# Altium integrated library Renesas Microcontroller R8C.IntLib: 628 symbols (part 14 of 33)
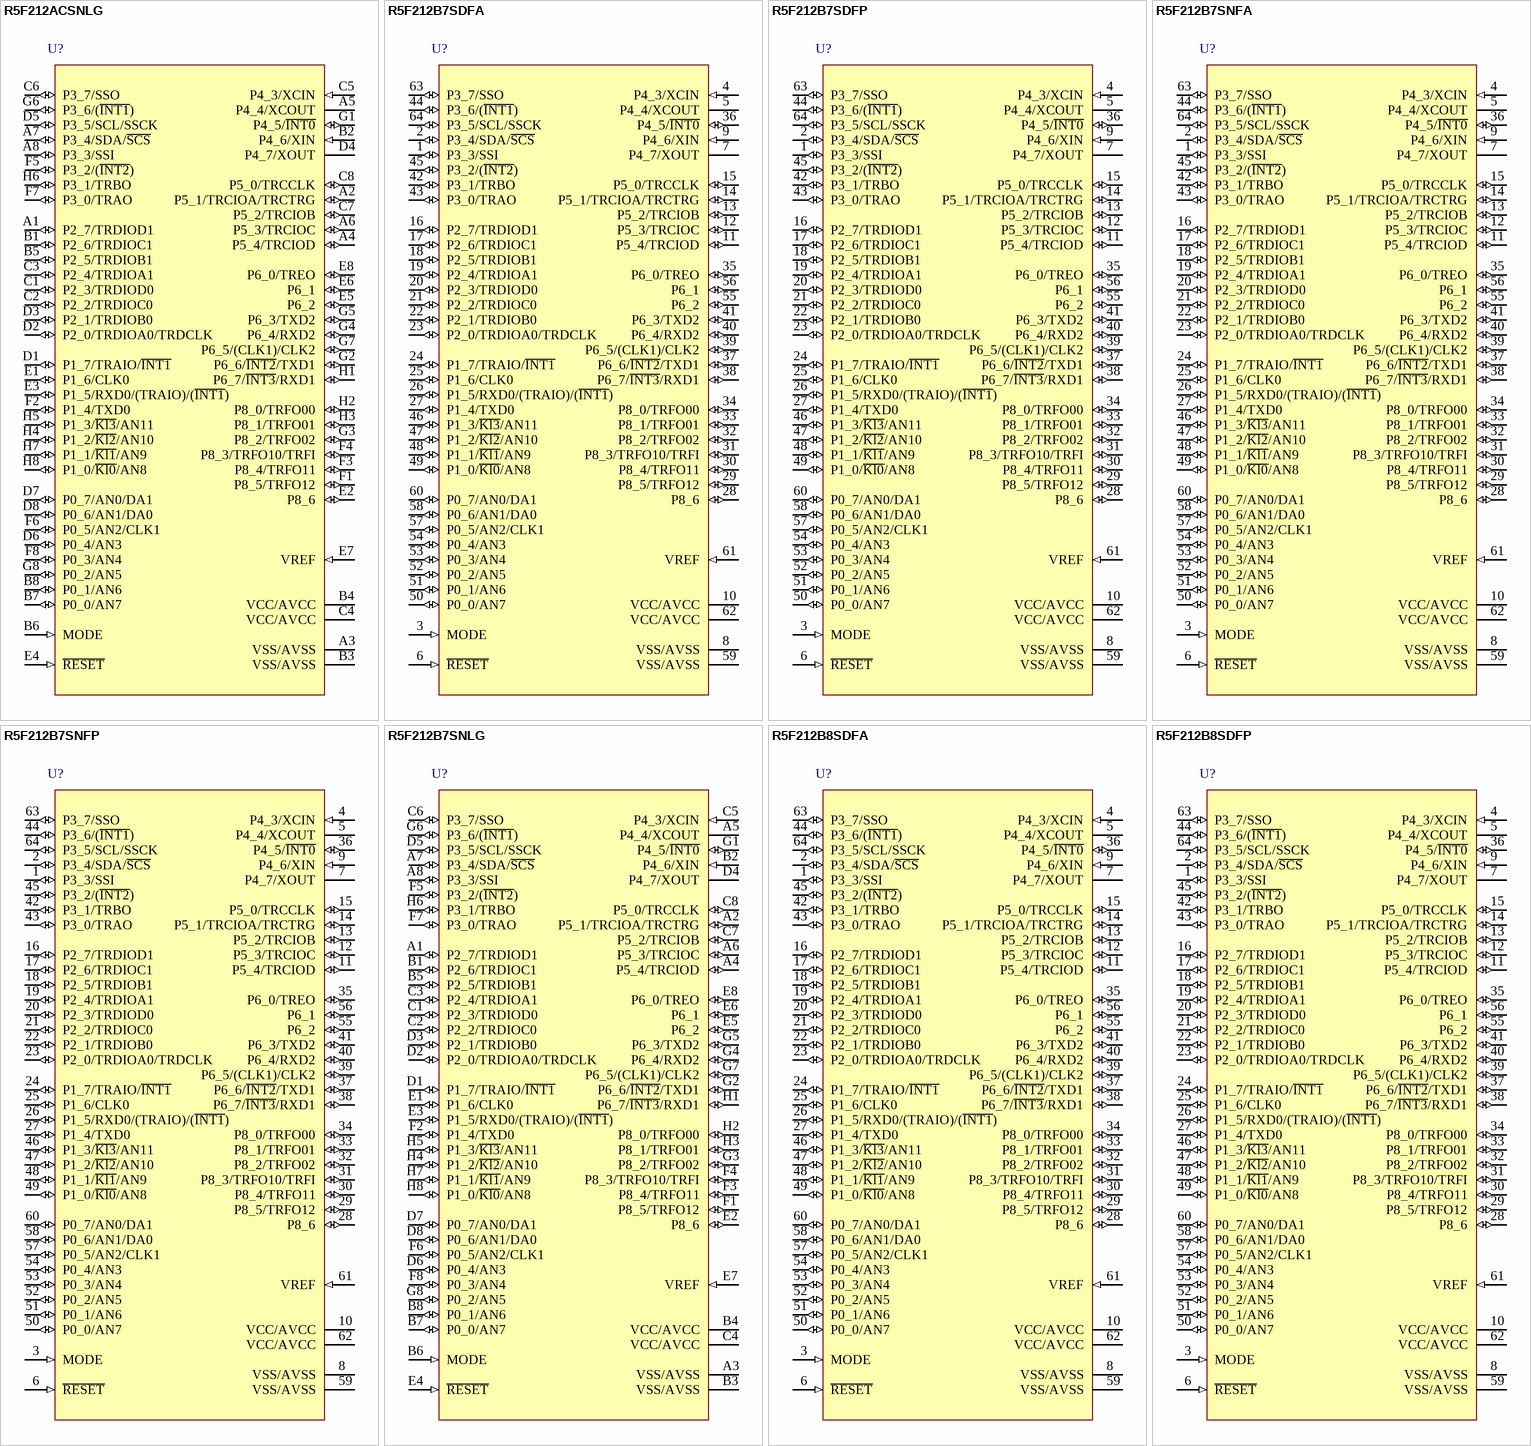
[diagram p129: symbols R5F212ACSNLG to R5F212B8SDFP]

## R5F212B7SNFP
designator U?
R8C/2B Group Single Chip 16-Bit CMOS MCU, 48K ROM + 1K x2 Data Flash, 2.5K RAM, N Version; Published: 30-Oct-2009; DatasheetVersion: Rev.2.10, Nov-2007; PackageVersion: Sep-2005; PackageReference: PLQP0064KB-A; Publisher: Altium Limited; PackageDescription: 64-Pin Plastic Low Profile QFP, 10 x 10 x 1.4 mm Body, 0.5 mm Pitch; Code_JEITA: P-LQFP64-10x10-0.50; Code_IPC: SQFP50P1200X1200-64; ComponentLink1Description: Manufacturer Link; ComponentLink1URL: http://sg.renesas.com/fmwk.jsp?cnt=r8c_family_landing.jsp&fp=/products/mpumcu/r8c_family/; ComponentLink2Description: Datasheet; ComponentLink2URL: http://documentation.renesas.com/eng/products/mpumcu/rej03b0182_r8c2a2bds.pdf; ComponentLink3Description: Packaging Specification; ComponentLink3URL: http://sg.renesas.com/media/products/common_info/package/pdf/ic/code/plqp0064kb_a.pdf
footprint PLQP0064KB-A_N (Shrink QFP, 64-Leads, Body 10x10mm, Pitch 0.5mm, IPC Medium Density)
footprint PLQP0064KB-A_L (Shrink QFP, 64-Leads, Body 10x10mm, Pitch 0.5mm, IPC High Density)
footprint PLQP0064KB-A_M (Shrink QFP, 64-Leads, Body 10x10mm, Pitch 0.5mm, IPC Low Density)
pins: 1 P3_3/SSI (io), 2 P3_4/SDA/~{SCS} (io), 3 MODE (in), 4 P4_3/XCIN (in), 5 P4_4/XCOUT, 6 ~{RESET} (in), 7 P4_7/XOUT, 8 VSS/AVSS (power), 9 P4_6/XIN (in), 10 VCC/AVCC (power), 11 P5_4/TRCIOD (io), 12 P5_3/TRCIOC (io), 13 P5_2/TRCIOB (io), 14 P5_1/TRCIOA/TRCTRG (io), 15 P5_0/TRCCLK (io), 16 P2_7/TRDIOD1 (io), 17 P2_6/TRDIOC1 (io), 18 P2_5/TRDIOB1 (io), 19 P2_4/TRDIOA1 (io), 20 P2_3/TRDIOD0 (io), 21 P2_2/TRDIOC0 (io), 22 P2_1/TRDIOB0 (io), 23 P2_0/TRDIOA0/TRDCLK (io), 24 P1_7/TRAIO/~{INT1} (io), 25 P1_6/CLK0 (io), 26 P1_5/RXD0/(TRAIO)/(~{INT1}) (io), 27 P1_4/TXD0 (io), 28 P8_6 (io), 29 P8_5/TRFO12 (io), 30 P8_4/TRFO11 (io), 31 P8_3/TRFO10/TRFI (io), 32 P8_2/TRFO02 (io), 33 P8_1/TRFO01 (io), 34 P8_0/TRFO00 (io), 35 P6_0/TREO (io), 36 P4_5/~{INT0} (io), 37 P6_6/~{INT2}/TXD1 (io), 38 P6_7/~{INT3}/RXD1 (io), 39 P6_5/(CLK1)/CLK2 (io), 40 P6_4/RXD2 (io), 41 P6_3/TXD2 (io), 42 P3_1/TRBO (io), 43 P3_0/TRAO (io), 44 P3_6/(~{INT1}) (io), 45 P3_2/(~{INT2}) (io), 46 P1_3/~{Kl3}/AN11 (io), 47 P1_2/~{Kl2}/AN10 (io), 48 P1_1/~{Kl1}/AN9 (io), 49 P1_0/~{Kl0}/AN8 (io), 50 P0_0/AN7 (io), 51 P0_1/AN6 (io), 52 P0_2/AN5 (io), 53 P0_3/AN4 (io), 54 P0_4/AN3 (io), 55 P6_2 (io), 56 P6_1 (io), 57 P0_5/AN2/CLK1 (io), 58 P0_6/AN1/DA0 (io), 59 VSS/AVSS (power), 60 P0_7/AN0/DA1 (io), 61 VREF (in), 62 VCC/AVCC (power), 63 P3_7/SSO (io), 64 P3_5/SCL/SSCK (io)

## R5F212B7SNLG
designator U?
R8C/2B Group Single Chip 16-Bit CMOS MCU, 48K ROM + 1K x2 Data Flash, 2.5K RAM, N Version; Published: 30-Oct-2009; DatasheetVersion: Rev.2.10, Nov-2007; PackageVersion: Sep-2005; PackageReference: PTLG0064JA-A; Publisher: Altium Limited; PackageDescription: 64-Ball Plastic Thin Fine-Pitch BGA, 6 x 6 mm Body, 0.65 mm Pitch; Code_JEITA: P-TFLGA64-6x6-0.65; ComponentLink1Description: Manufacturer Link; ComponentLink1URL: http://sg.renesas.com/fmwk.jsp?cnt=r8c_family_landing.jsp&fp=/products/mpumcu/r8c_family/; ComponentLink2Description: Datasheet; ComponentLink2URL: http://documentation.renesas.com/eng/products/mpumcu/rej03b0182_r8c2a2bds.pdf; ComponentLink3Description: Packaging Specification; ComponentLink3URL: http://sg.renesas.com/media/products/common_info/package/pdf/ic/code/ptlg0064ja_a.pdf
footprint PTLG0064JA-A (BGA, 64-Leads, Body 6x6mm, Pitch 0.65mm)
pins: A1 P2_7/TRDIOD1 (io), A2 P5_1/TRCIOA/TRCTRG (io), A3 VSS/AVSS (power), A4 P5_4/TRCIOD (io), A5 P4_4/XCOUT, A6 P5_3/TRCIOC (io), A7 P3_4/SDA/~{SCS} (io), A8 P3_3/SSI (io), B1 P2_6/TRDIOC1 (io), B2 P4_6/XIN (in), B3 VSS/AVSS (power), B4 VCC/AVCC (power), B5 P2_5/TRDIOB1 (io), B6 MODE (in), B7 P0_0/AN7 (io), B8 P0_1/AN6 (io), C1 P2_3/TRDIOD0 (io), C2 P2_2/TRDIOC0 (io), C3 P2_4/TRDIOA1 (io), C4 VCC/AVCC (power), C5 P4_3/XCIN (in), C6 P3_7/SSO (io), C7 P5_2/TRCIOB (io), C8 P5_0/TRCCLK (io), D1 P1_7/TRAIO/~{INT1} (io), D2 P2_0/TRDIOA0/TRDCLK (io), D3 P2_1/TRDIOB0 (io), D4 P4_7/XOUT, D5 P3_5/SCL/SSCK (io), D6 P0_4/AN3 (io), D7 P0_7/AN0/DA1 (io), D8 P0_6/AN1/DA0 (io), E1 P1_6/CLK0 (io), E2 P8_6 (io), E3 P1_5/RXD0/(TRAIO)/(~{INT1}) (io), E4 ~{RESET} (in), E5 P6_2 (io), E6 P6_1 (io), E7 VREF (in), E8 P6_0/TREO (io), F1 P8_5/TRFO12 (io), F2 P1_4/TXD0 (io), F3 P8_4/TRFO11 (io), F4 P8_3/TRFO10/TRFI (io), F5 P3_2/(~{INT2}) (io), F6 P0_5/AN2/CLK1 (io), F7 P3_0/TRAO (io), F8 P0_3/AN4 (io), G1 P4_5/~{INT0} (io), G2 P6_6/~{INT2}/TXD1 (io), G3 P8_2/TRFO02 (io), G4 P6_4/RXD2 (io), G5 P6_3/TXD2 (io), G6 P3_6/(~{INT1}) (io), G7 P6_5/(CLK1)/CLK2 (io), G8 P0_2/AN5 (io), H1 P6_7/~{INT3}/RXD1 (io), H2 P8_0/TRFO00 (io), H3 P8_1/TRFO01 (io), H4 P1_2/~{Kl2}/AN10 (io), H5 P1_3/~{Kl3}/AN11 (io), H6 P3_1/TRBO (io), H7 P1_1/~{Kl1}/AN9 (io), H8 P1_0/~{Kl0}/AN8 (io)

## R5F212B8SDFA
designator U?
R8C/2B Group Single Chip 16-Bit CMOS MCU, 64K ROM + 1K x2 Data Flash, 3K RAM, D Version; Published: 30-Oct-2009; DatasheetVersion: Rev.2.10, Nov-2007; PackageVersion: Oct-2005; PackageReference: PLQP0064GA-A; Publisher: Altium Limited; PackageDescription: 64-Pin Plastic Low Profile QFP, 14 x 14 x 1.4 mm Body, 0.8 mm Pitch; Code_JEITA: P-LQFP64-14x14-0.80; ComponentLink1Description: Manufacturer Link; ComponentLink1URL: http://sg.renesas.com/fmwk.jsp?cnt=r8c_family_landing.jsp&fp=/products/mpumcu/r8c_family/; ComponentLink2Description: Datasheet; ComponentLink2URL: http://documentation.renesas.com/eng/products/mpumcu/rej03b0182_r8c2a2bds.pdf; ComponentLink3Description: Packaging Specification; ComponentLink3URL: http://sg.renesas.com/media/products/common_info/package/pdf/ic/code/plqp0064ga_a.pdf
footprint PLQP0064GA-A_N (QFP, 64-Leads, Body 14x14mm, Pitch 0.8mm, IPC Medium Density)
footprint PLQP0064GA-A_L (QFP, 64-Leads, Body 14x14mm, Pitch 0.8mm, IPC High Density)
footprint PLQP0064GA-A_M (QFP, 64-Leads, Body 14x14mm, Pitch 0.8mm, IPC Low Density)
pins: 1 P3_3/SSI (io), 2 P3_4/SDA/~{SCS} (io), 3 MODE (in), 4 P4_3/XCIN (in), 5 P4_4/XCOUT, 6 ~{RESET} (in), 7 P4_7/XOUT, 8 VSS/AVSS (power), 9 P4_6/XIN (in), 10 VCC/AVCC (power), 11 P5_4/TRCIOD (io), 12 P5_3/TRCIOC (io), 13 P5_2/TRCIOB (io), 14 P5_1/TRCIOA/TRCTRG (io), 15 P5_0/TRCCLK (io), 16 P2_7/TRDIOD1 (io), 17 P2_6/TRDIOC1 (io), 18 P2_5/TRDIOB1 (io), 19 P2_4/TRDIOA1 (io), 20 P2_3/TRDIOD0 (io), 21 P2_2/TRDIOC0 (io), 22 P2_1/TRDIOB0 (io), 23 P2_0/TRDIOA0/TRDCLK (io), 24 P1_7/TRAIO/~{INT1} (io), 25 P1_6/CLK0 (io), 26 P1_5/RXD0/(TRAIO)/(~{INT1}) (io), 27 P1_4/TXD0 (io), 28 P8_6 (io), 29 P8_5/TRFO12 (io), 30 P8_4/TRFO11 (io), 31 P8_3/TRFO10/TRFI (io), 32 P8_2/TRFO02 (io), 33 P8_1/TRFO01 (io), 34 P8_0/TRFO00 (io), 35 P6_0/TREO (io), 36 P4_5/~{INT0} (io), 37 P6_6/~{INT2}/TXD1 (io), 38 P6_7/~{INT3}/RXD1 (io), 39 P6_5/(CLK1)/CLK2 (io), 40 P6_4/RXD2 (io), 41 P6_3/TXD2 (io), 42 P3_1/TRBO (io), 43 P3_0/TRAO (io), 44 P3_6/(~{INT1}) (io), 45 P3_2/(~{INT2}) (io), 46 P1_3/~{Kl3}/AN11 (io), 47 P1_2/~{Kl2}/AN10 (io), 48 P1_1/~{Kl1}/AN9 (io), 49 P1_0/~{Kl0}/AN8 (io), 50 P0_0/AN7 (io), 51 P0_1/AN6 (io), 52 P0_2/AN5 (io), 53 P0_3/AN4 (io), 54 P0_4/AN3 (io), 55 P6_2 (io), 56 P6_1 (io), 57 P0_5/AN2/CLK1 (io), 58 P0_6/AN1/DA0 (io), 59 VSS/AVSS (power), 60 P0_7/AN0/DA1 (io), 61 VREF (in), 62 VCC/AVCC (power), 63 P3_7/SSO (io), 64 P3_5/SCL/SSCK (io)

## R5F212B8SDFP
designator U?
R8C/2B Group Single Chip 16-Bit CMOS MCU, 64K ROM + 1K x2 Data Flash, 3K RAM, D Version; Published: 30-Oct-2009; DatasheetVersion: Rev.2.10, Nov-2007; PackageVersion: Sep-2005; PackageReference: PLQP0064KB-A; Publisher: Altium Limited; PackageDescription: 64-Pin Plastic Low Profile QFP, 10 x 10 x 1.4 mm Body, 0.5 mm Pitch; Code_JEITA: P-LQFP64-10x10-0.50; Code_IPC: SQFP50P1200X1200-64; ComponentLink1Description: Manufacturer Link; ComponentLink1URL: http://sg.renesas.com/fmwk.jsp?cnt=r8c_family_landing.jsp&fp=/products/mpumcu/r8c_family/; ComponentLink2Description: Datasheet; ComponentLink2URL: http://documentation.renesas.com/eng/products/mpumcu/rej03b0182_r8c2a2bds.pdf; ComponentLink3Description: Packaging Specification; ComponentLink3URL: http://sg.renesas.com/media/products/common_info/package/pdf/ic/code/plqp0064kb_a.pdf
footprint PLQP0064KB-A_N (Shrink QFP, 64-Leads, Body 10x10mm, Pitch 0.5mm, IPC Medium Density)
footprint PLQP0064KB-A_L (Shrink QFP, 64-Leads, Body 10x10mm, Pitch 0.5mm, IPC High Density)
footprint PLQP0064KB-A_M (Shrink QFP, 64-Leads, Body 10x10mm, Pitch 0.5mm, IPC Low Density)
pins: 1 P3_3/SSI (io), 2 P3_4/SDA/~{SCS} (io), 3 MODE (in), 4 P4_3/XCIN (in), 5 P4_4/XCOUT, 6 ~{RESET} (in), 7 P4_7/XOUT, 8 VSS/AVSS (power), 9 P4_6/XIN (in), 10 VCC/AVCC (power), 11 P5_4/TRCIOD (io), 12 P5_3/TRCIOC (io), 13 P5_2/TRCIOB (io), 14 P5_1/TRCIOA/TRCTRG (io), 15 P5_0/TRCCLK (io), 16 P2_7/TRDIOD1 (io), 17 P2_6/TRDIOC1 (io), 18 P2_5/TRDIOB1 (io), 19 P2_4/TRDIOA1 (io), 20 P2_3/TRDIOD0 (io), 21 P2_2/TRDIOC0 (io), 22 P2_1/TRDIOB0 (io), 23 P2_0/TRDIOA0/TRDCLK (io), 24 P1_7/TRAIO/~{INT1} (io), 25 P1_6/CLK0 (io), 26 P1_5/RXD0/(TRAIO)/(~{INT1}) (io), 27 P1_4/TXD0 (io), 28 P8_6 (io), 29 P8_5/TRFO12 (io), 30 P8_4/TRFO11 (io), 31 P8_3/TRFO10/TRFI (io), 32 P8_2/TRFO02 (io), 33 P8_1/TRFO01 (io), 34 P8_0/TRFO00 (io), 35 P6_0/TREO (io), 36 P4_5/~{INT0} (io), 37 P6_6/~{INT2}/TXD1 (io), 38 P6_7/~{INT3}/RXD1 (io), 39 P6_5/(CLK1)/CLK2 (io), 40 P6_4/RXD2 (io), 41 P6_3/TXD2 (io), 42 P3_1/TRBO (io), 43 P3_0/TRAO (io), 44 P3_6/(~{INT1}) (io), 45 P3_2/(~{INT2}) (io), 46 P1_3/~{Kl3}/AN11 (io), 47 P1_2/~{Kl2}/AN10 (io), 48 P1_1/~{Kl1}/AN9 (io), 49 P1_0/~{Kl0}/AN8 (io), 50 P0_0/AN7 (io), 51 P0_1/AN6 (io), 52 P0_2/AN5 (io), 53 P0_3/AN4 (io), 54 P0_4/AN3 (io), 55 P6_2 (io), 56 P6_1 (io), 57 P0_5/AN2/CLK1 (io), 58 P0_6/AN1/DA0 (io), 59 VSS/AVSS (power), 60 P0_7/AN0/DA1 (io), 61 VREF (in), 62 VCC/AVCC (power), 63 P3_7/SSO (io), 64 P3_5/SCL/SSCK (io)

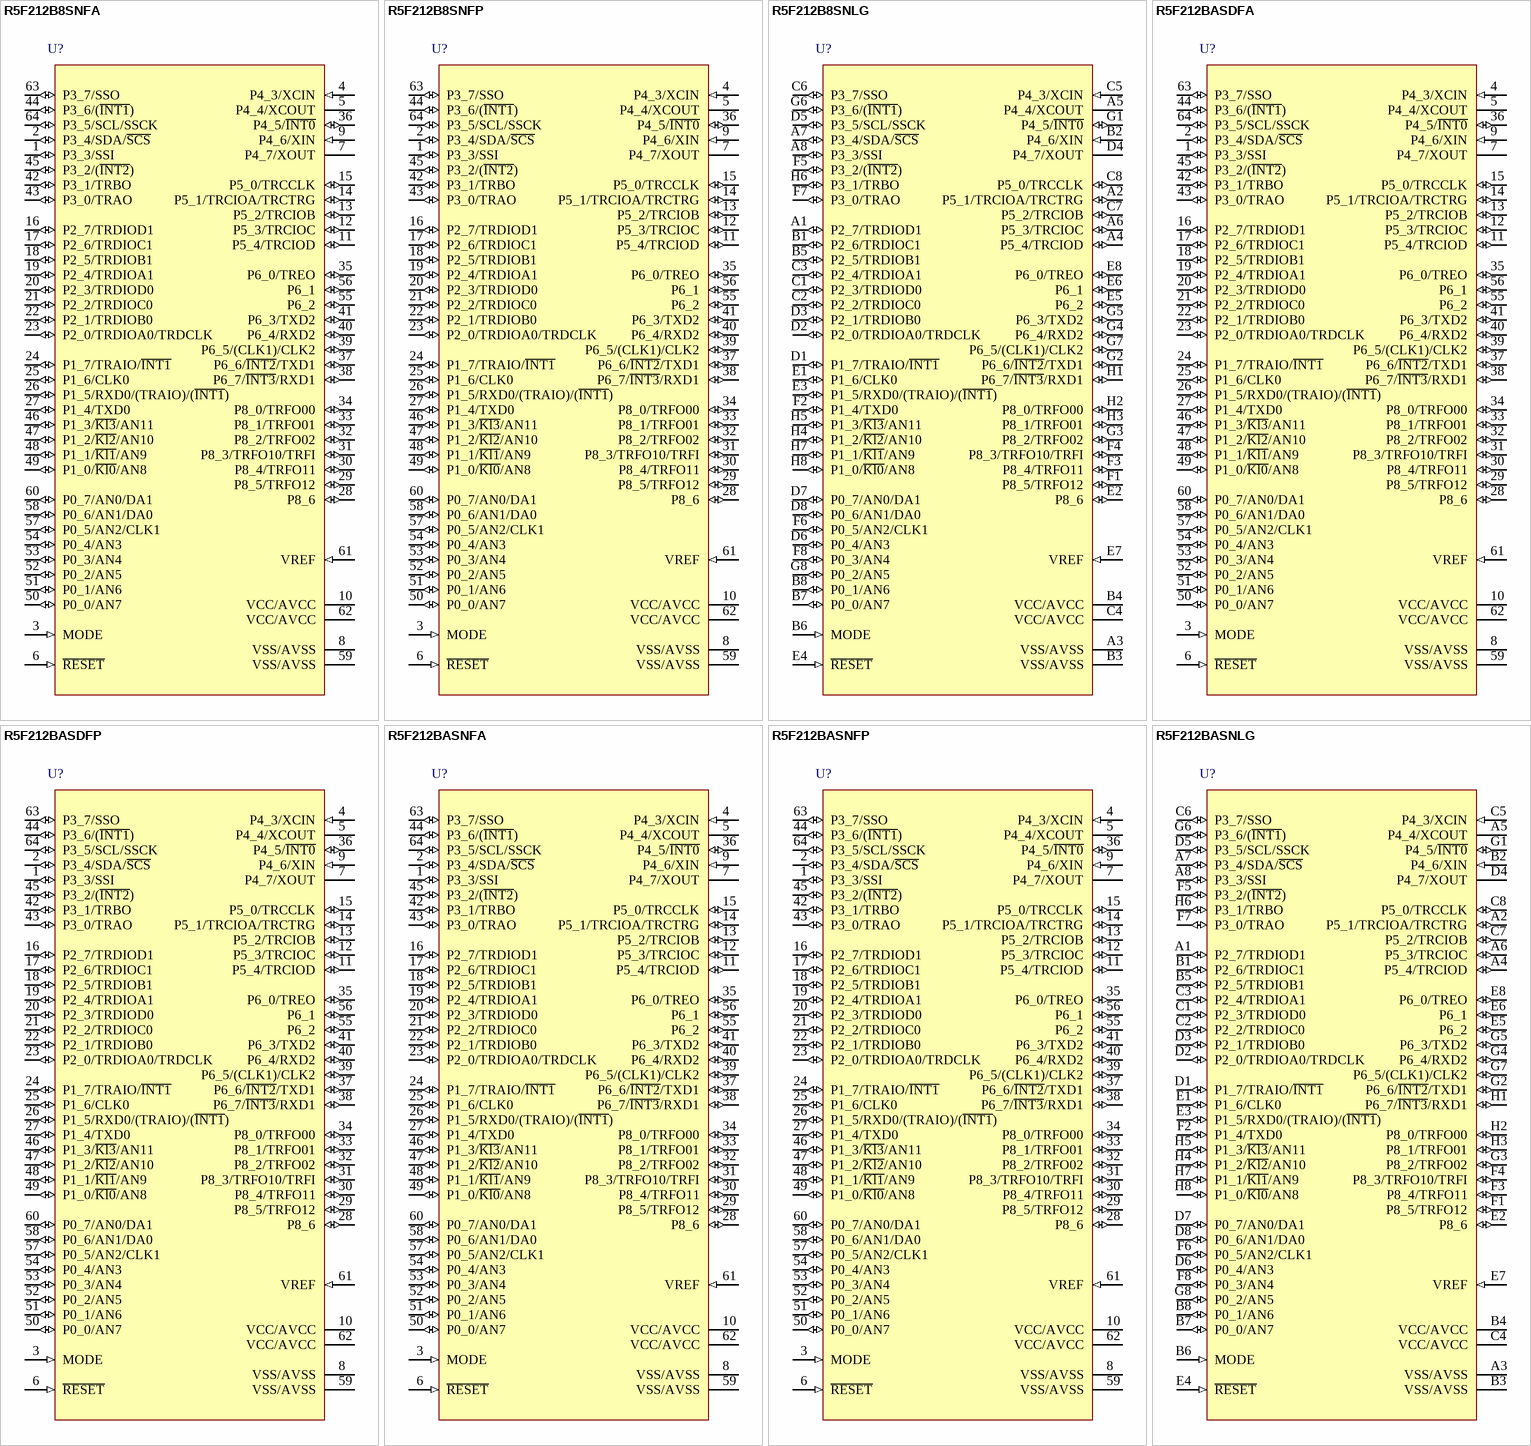
[diagram p48: symbols R5F212B8SNFA to R5F212BASNLG]

## R5F212B8SNFA
designator U?
R8C/2B Group Single Chip 16-Bit CMOS MCU, 64K ROM + 1K x2 Data Flash, 3K RAM, N Version; Published: 30-Oct-2009; DatasheetVersion: Rev.2.10, Nov-2007; PackageVersion: Oct-2005; PackageReference: PLQP0064GA-A; Publisher: Altium Limited; PackageDescription: 64-Pin Plastic Low Profile QFP, 14 x 14 x 1.4 mm Body, 0.8 mm Pitch; Code_JEITA: P-LQFP64-14x14-0.80; ComponentLink1Description: Manufacturer Link; ComponentLink1URL: http://sg.renesas.com/fmwk.jsp?cnt=r8c_family_landing.jsp&fp=/products/mpumcu/r8c_family/; ComponentLink2Description: Datasheet; ComponentLink2URL: http://documentation.renesas.com/eng/products/mpumcu/rej03b0182_r8c2a2bds.pdf; ComponentLink3Description: Packaging Specification; ComponentLink3URL: http://sg.renesas.com/media/products/common_info/package/pdf/ic/code/plqp0064ga_a.pdf
footprint PLQP0064GA-A_N (QFP, 64-Leads, Body 14x14mm, Pitch 0.8mm, IPC Medium Density)
footprint PLQP0064GA-A_L (QFP, 64-Leads, Body 14x14mm, Pitch 0.8mm, IPC High Density)
footprint PLQP0064GA-A_M (QFP, 64-Leads, Body 14x14mm, Pitch 0.8mm, IPC Low Density)
pins: 1 P3_3/SSI (io), 2 P3_4/SDA/~{SCS} (io), 3 MODE (in), 4 P4_3/XCIN (in), 5 P4_4/XCOUT, 6 ~{RESET} (in), 7 P4_7/XOUT, 8 VSS/AVSS (power), 9 P4_6/XIN (in), 10 VCC/AVCC (power), 11 P5_4/TRCIOD (io), 12 P5_3/TRCIOC (io), 13 P5_2/TRCIOB (io), 14 P5_1/TRCIOA/TRCTRG (io), 15 P5_0/TRCCLK (io), 16 P2_7/TRDIOD1 (io), 17 P2_6/TRDIOC1 (io), 18 P2_5/TRDIOB1 (io), 19 P2_4/TRDIOA1 (io), 20 P2_3/TRDIOD0 (io), 21 P2_2/TRDIOC0 (io), 22 P2_1/TRDIOB0 (io), 23 P2_0/TRDIOA0/TRDCLK (io), 24 P1_7/TRAIO/~{INT1} (io), 25 P1_6/CLK0 (io), 26 P1_5/RXD0/(TRAIO)/(~{INT1}) (io), 27 P1_4/TXD0 (io), 28 P8_6 (io), 29 P8_5/TRFO12 (io), 30 P8_4/TRFO11 (io), 31 P8_3/TRFO10/TRFI (io), 32 P8_2/TRFO02 (io), 33 P8_1/TRFO01 (io), 34 P8_0/TRFO00 (io), 35 P6_0/TREO (io), 36 P4_5/~{INT0} (io), 37 P6_6/~{INT2}/TXD1 (io), 38 P6_7/~{INT3}/RXD1 (io), 39 P6_5/(CLK1)/CLK2 (io), 40 P6_4/RXD2 (io), 41 P6_3/TXD2 (io), 42 P3_1/TRBO (io), 43 P3_0/TRAO (io), 44 P3_6/(~{INT1}) (io), 45 P3_2/(~{INT2}) (io), 46 P1_3/~{Kl3}/AN11 (io), 47 P1_2/~{Kl2}/AN10 (io), 48 P1_1/~{Kl1}/AN9 (io), 49 P1_0/~{Kl0}/AN8 (io), 50 P0_0/AN7 (io), 51 P0_1/AN6 (io), 52 P0_2/AN5 (io), 53 P0_3/AN4 (io), 54 P0_4/AN3 (io), 55 P6_2 (io), 56 P6_1 (io), 57 P0_5/AN2/CLK1 (io), 58 P0_6/AN1/DA0 (io), 59 VSS/AVSS (power), 60 P0_7/AN0/DA1 (io), 61 VREF (in), 62 VCC/AVCC (power), 63 P3_7/SSO (io), 64 P3_5/SCL/SSCK (io)

## R5F212B8SNFP
designator U?
R8C/2B Group Single Chip 16-Bit CMOS MCU, 64K ROM + 1K x2 Data Flash, 3K RAM, N Version; Published: 30-Oct-2009; DatasheetVersion: Rev.2.10, Nov-2007; PackageVersion: Sep-2005; PackageReference: PLQP0064KB-A; Publisher: Altium Limited; PackageDescription: 64-Pin Plastic Low Profile QFP, 10 x 10 x 1.4 mm Body, 0.5 mm Pitch; Code_JEITA: P-LQFP64-10x10-0.50; Code_IPC: SQFP50P1200X1200-64; ComponentLink1Description: Manufacturer Link; ComponentLink1URL: http://sg.renesas.com/fmwk.jsp?cnt=r8c_family_landing.jsp&fp=/products/mpumcu/r8c_family/; ComponentLink2Description: Datasheet; ComponentLink2URL: http://documentation.renesas.com/eng/products/mpumcu/rej03b0182_r8c2a2bds.pdf; ComponentLink3Description: Packaging Specification; ComponentLink3URL: http://sg.renesas.com/media/products/common_info/package/pdf/ic/code/plqp0064kb_a.pdf
footprint PLQP0064KB-A_N (Shrink QFP, 64-Leads, Body 10x10mm, Pitch 0.5mm, IPC Medium Density)
footprint PLQP0064KB-A_L (Shrink QFP, 64-Leads, Body 10x10mm, Pitch 0.5mm, IPC High Density)
footprint PLQP0064KB-A_M (Shrink QFP, 64-Leads, Body 10x10mm, Pitch 0.5mm, IPC Low Density)
pins: 1 P3_3/SSI (io), 2 P3_4/SDA/~{SCS} (io), 3 MODE (in), 4 P4_3/XCIN (in), 5 P4_4/XCOUT, 6 ~{RESET} (in), 7 P4_7/XOUT, 8 VSS/AVSS (power), 9 P4_6/XIN (in), 10 VCC/AVCC (power), 11 P5_4/TRCIOD (io), 12 P5_3/TRCIOC (io), 13 P5_2/TRCIOB (io), 14 P5_1/TRCIOA/TRCTRG (io), 15 P5_0/TRCCLK (io), 16 P2_7/TRDIOD1 (io), 17 P2_6/TRDIOC1 (io), 18 P2_5/TRDIOB1 (io), 19 P2_4/TRDIOA1 (io), 20 P2_3/TRDIOD0 (io), 21 P2_2/TRDIOC0 (io), 22 P2_1/TRDIOB0 (io), 23 P2_0/TRDIOA0/TRDCLK (io), 24 P1_7/TRAIO/~{INT1} (io), 25 P1_6/CLK0 (io), 26 P1_5/RXD0/(TRAIO)/(~{INT1}) (io), 27 P1_4/TXD0 (io), 28 P8_6 (io), 29 P8_5/TRFO12 (io), 30 P8_4/TRFO11 (io), 31 P8_3/TRFO10/TRFI (io), 32 P8_2/TRFO02 (io), 33 P8_1/TRFO01 (io), 34 P8_0/TRFO00 (io), 35 P6_0/TREO (io), 36 P4_5/~{INT0} (io), 37 P6_6/~{INT2}/TXD1 (io), 38 P6_7/~{INT3}/RXD1 (io), 39 P6_5/(CLK1)/CLK2 (io), 40 P6_4/RXD2 (io), 41 P6_3/TXD2 (io), 42 P3_1/TRBO (io), 43 P3_0/TRAO (io), 44 P3_6/(~{INT1}) (io), 45 P3_2/(~{INT2}) (io), 46 P1_3/~{Kl3}/AN11 (io), 47 P1_2/~{Kl2}/AN10 (io), 48 P1_1/~{Kl1}/AN9 (io), 49 P1_0/~{Kl0}/AN8 (io), 50 P0_0/AN7 (io), 51 P0_1/AN6 (io), 52 P0_2/AN5 (io), 53 P0_3/AN4 (io), 54 P0_4/AN3 (io), 55 P6_2 (io), 56 P6_1 (io), 57 P0_5/AN2/CLK1 (io), 58 P0_6/AN1/DA0 (io), 59 VSS/AVSS (power), 60 P0_7/AN0/DA1 (io), 61 VREF (in), 62 VCC/AVCC (power), 63 P3_7/SSO (io), 64 P3_5/SCL/SSCK (io)

## R5F212B8SNLG
designator U?
R8C/2B Group Single Chip 16-Bit CMOS MCU, 64K ROM + 1K x2 Data Flash, 3K RAM, N Version; Published: 30-Oct-2009; DatasheetVersion: Rev.2.10, Nov-2007; PackageVersion: Sep-2005; PackageReference: PTLG0064JA-A; Publisher: Altium Limited; PackageDescription: 64-Ball Plastic Thin Fine-Pitch BGA, 6 x 6 mm Body, 0.65 mm Pitch; Code_JEITA: P-TFLGA64-6x6-0.65; ComponentLink1Description: Manufacturer Link; ComponentLink1URL: http://sg.renesas.com/fmwk.jsp?cnt=r8c_family_landing.jsp&fp=/products/mpumcu/r8c_family/; ComponentLink2Description: Datasheet; ComponentLink2URL: http://documentation.renesas.com/eng/products/mpumcu/rej03b0182_r8c2a2bds.pdf; ComponentLink3Description: Packaging Specification; ComponentLink3URL: http://sg.renesas.com/media/products/common_info/package/pdf/ic/code/ptlg0064ja_a.pdf
footprint PTLG0064JA-A (BGA, 64-Leads, Body 6x6mm, Pitch 0.65mm)
pins: A1 P2_7/TRDIOD1 (io), A2 P5_1/TRCIOA/TRCTRG (io), A3 VSS/AVSS (power), A4 P5_4/TRCIOD (io), A5 P4_4/XCOUT, A6 P5_3/TRCIOC (io), A7 P3_4/SDA/~{SCS} (io), A8 P3_3/SSI (io), B1 P2_6/TRDIOC1 (io), B2 P4_6/XIN (in), B3 VSS/AVSS (power), B4 VCC/AVCC (power), B5 P2_5/TRDIOB1 (io), B6 MODE (in), B7 P0_0/AN7 (io), B8 P0_1/AN6 (io), C1 P2_3/TRDIOD0 (io), C2 P2_2/TRDIOC0 (io), C3 P2_4/TRDIOA1 (io), C4 VCC/AVCC (power), C5 P4_3/XCIN (in), C6 P3_7/SSO (io), C7 P5_2/TRCIOB (io), C8 P5_0/TRCCLK (io), D1 P1_7/TRAIO/~{INT1} (io), D2 P2_0/TRDIOA0/TRDCLK (io), D3 P2_1/TRDIOB0 (io), D4 P4_7/XOUT, D5 P3_5/SCL/SSCK (io), D6 P0_4/AN3 (io), D7 P0_7/AN0/DA1 (io), D8 P0_6/AN1/DA0 (io), E1 P1_6/CLK0 (io), E2 P8_6 (io), E3 P1_5/RXD0/(TRAIO)/(~{INT1}) (io), E4 ~{RESET} (in), E5 P6_2 (io), E6 P6_1 (io), E7 VREF (in), E8 P6_0/TREO (io), F1 P8_5/TRFO12 (io), F2 P1_4/TXD0 (io), F3 P8_4/TRFO11 (io), F4 P8_3/TRFO10/TRFI (io), F5 P3_2/(~{INT2}) (io), F6 P0_5/AN2/CLK1 (io), F7 P3_0/TRAO (io), F8 P0_3/AN4 (io), G1 P4_5/~{INT0} (io), G2 P6_6/~{INT2}/TXD1 (io), G3 P8_2/TRFO02 (io), G4 P6_4/RXD2 (io), G5 P6_3/TXD2 (io), G6 P3_6/(~{INT1}) (io), G7 P6_5/(CLK1)/CLK2 (io), G8 P0_2/AN5 (io), H1 P6_7/~{INT3}/RXD1 (io), H2 P8_0/TRFO00 (io), H3 P8_1/TRFO01 (io), H4 P1_2/~{Kl2}/AN10 (io), H5 P1_3/~{Kl3}/AN11 (io), H6 P3_1/TRBO (io), H7 P1_1/~{Kl1}/AN9 (io), H8 P1_0/~{Kl0}/AN8 (io)

## R5F212BASDFA
designator U?
R8C/2B Group Single Chip 16-Bit CMOS MCU, 96K ROM + 1K x2 Data Flash, 7K RAM, D Version; Published: 30-Oct-2009; DatasheetVersion: Rev.2.10, Nov-2007; PackageVersion: Oct-2005; PackageReference: PLQP0064GA-A; Publisher: Altium Limited; PackageDescription: 64-Pin Plastic Low Profile QFP, 14 x 14 x 1.4 mm Body, 0.8 mm Pitch; Code_JEITA: P-LQFP64-14x14-0.80; ComponentLink1Description: Manufacturer Link; ComponentLink1URL: http://sg.renesas.com/fmwk.jsp?cnt=r8c_family_landing.jsp&fp=/products/mpumcu/r8c_family/; ComponentLink2Description: Datasheet; ComponentLink2URL: http://documentation.renesas.com/eng/products/mpumcu/rej03b0182_r8c2a2bds.pdf; ComponentLink3Description: Packaging Specification; ComponentLink3URL: http://sg.renesas.com/media/products/common_info/package/pdf/ic/code/plqp0064ga_a.pdf
footprint PLQP0064GA-A_N (QFP, 64-Leads, Body 14x14mm, Pitch 0.8mm, IPC Medium Density)
footprint PLQP0064GA-A_L (QFP, 64-Leads, Body 14x14mm, Pitch 0.8mm, IPC High Density)
footprint PLQP0064GA-A_M (QFP, 64-Leads, Body 14x14mm, Pitch 0.8mm, IPC Low Density)
pins: 1 P3_3/SSI (io), 2 P3_4/SDA/~{SCS} (io), 3 MODE (in), 4 P4_3/XCIN (in), 5 P4_4/XCOUT, 6 ~{RESET} (in), 7 P4_7/XOUT, 8 VSS/AVSS (power), 9 P4_6/XIN (in), 10 VCC/AVCC (power), 11 P5_4/TRCIOD (io), 12 P5_3/TRCIOC (io), 13 P5_2/TRCIOB (io), 14 P5_1/TRCIOA/TRCTRG (io), 15 P5_0/TRCCLK (io), 16 P2_7/TRDIOD1 (io), 17 P2_6/TRDIOC1 (io), 18 P2_5/TRDIOB1 (io), 19 P2_4/TRDIOA1 (io), 20 P2_3/TRDIOD0 (io), 21 P2_2/TRDIOC0 (io), 22 P2_1/TRDIOB0 (io), 23 P2_0/TRDIOA0/TRDCLK (io), 24 P1_7/TRAIO/~{INT1} (io), 25 P1_6/CLK0 (io), 26 P1_5/RXD0/(TRAIO)/(~{INT1}) (io), 27 P1_4/TXD0 (io), 28 P8_6 (io), 29 P8_5/TRFO12 (io), 30 P8_4/TRFO11 (io), 31 P8_3/TRFO10/TRFI (io), 32 P8_2/TRFO02 (io), 33 P8_1/TRFO01 (io), 34 P8_0/TRFO00 (io), 35 P6_0/TREO (io), 36 P4_5/~{INT0} (io), 37 P6_6/~{INT2}/TXD1 (io), 38 P6_7/~{INT3}/RXD1 (io), 39 P6_5/(CLK1)/CLK2 (io), 40 P6_4/RXD2 (io), 41 P6_3/TXD2 (io), 42 P3_1/TRBO (io), 43 P3_0/TRAO (io), 44 P3_6/(~{INT1}) (io), 45 P3_2/(~{INT2}) (io), 46 P1_3/~{Kl3}/AN11 (io), 47 P1_2/~{Kl2}/AN10 (io), 48 P1_1/~{Kl1}/AN9 (io), 49 P1_0/~{Kl0}/AN8 (io), 50 P0_0/AN7 (io), 51 P0_1/AN6 (io), 52 P0_2/AN5 (io), 53 P0_3/AN4 (io), 54 P0_4/AN3 (io), 55 P6_2 (io), 56 P6_1 (io), 57 P0_5/AN2/CLK1 (io), 58 P0_6/AN1/DA0 (io), 59 VSS/AVSS (power), 60 P0_7/AN0/DA1 (io), 61 VREF (in), 62 VCC/AVCC (power), 63 P3_7/SSO (io), 64 P3_5/SCL/SSCK (io)

## R5F212BASDFP
designator U?
R8C/2B Group Single Chip 16-Bit CMOS MCU, 96K ROM + 1K x2 Data Flash, 7K RAM, D Version; Published: 30-Oct-2009; DatasheetVersion: Rev.2.10, Nov-2007; PackageVersion: Sep-2005; PackageReference: PLQP0064KB-A; Publisher: Altium Limited; PackageDescription: 64-Pin Plastic Low Profile QFP, 10 x 10 x 1.4 mm Body, 0.5 mm Pitch; Code_JEITA: P-LQFP64-10x10-0.50; Code_IPC: SQFP50P1200X1200-64; ComponentLink1Description: Manufacturer Link; ComponentLink1URL: http://sg.renesas.com/fmwk.jsp?cnt=r8c_family_landing.jsp&fp=/products/mpumcu/r8c_family/; ComponentLink2Description: Datasheet; ComponentLink2URL: http://documentation.renesas.com/eng/products/mpumcu/rej03b0182_r8c2a2bds.pdf; ComponentLink3Description: Packaging Specification; ComponentLink3URL: http://sg.renesas.com/media/products/common_info/package/pdf/ic/code/plqp0064kb_a.pdf
footprint PLQP0064KB-A_N (Shrink QFP, 64-Leads, Body 10x10mm, Pitch 0.5mm, IPC Medium Density)
footprint PLQP0064KB-A_L (Shrink QFP, 64-Leads, Body 10x10mm, Pitch 0.5mm, IPC High Density)
footprint PLQP0064KB-A_M (Shrink QFP, 64-Leads, Body 10x10mm, Pitch 0.5mm, IPC Low Density)
pins: 1 P3_3/SSI (io), 2 P3_4/SDA/~{SCS} (io), 3 MODE (in), 4 P4_3/XCIN (in), 5 P4_4/XCOUT, 6 ~{RESET} (in), 7 P4_7/XOUT, 8 VSS/AVSS (power), 9 P4_6/XIN (in), 10 VCC/AVCC (power), 11 P5_4/TRCIOD (io), 12 P5_3/TRCIOC (io), 13 P5_2/TRCIOB (io), 14 P5_1/TRCIOA/TRCTRG (io), 15 P5_0/TRCCLK (io), 16 P2_7/TRDIOD1 (io), 17 P2_6/TRDIOC1 (io), 18 P2_5/TRDIOB1 (io), 19 P2_4/TRDIOA1 (io), 20 P2_3/TRDIOD0 (io), 21 P2_2/TRDIOC0 (io), 22 P2_1/TRDIOB0 (io), 23 P2_0/TRDIOA0/TRDCLK (io), 24 P1_7/TRAIO/~{INT1} (io), 25 P1_6/CLK0 (io), 26 P1_5/RXD0/(TRAIO)/(~{INT1}) (io), 27 P1_4/TXD0 (io), 28 P8_6 (io), 29 P8_5/TRFO12 (io), 30 P8_4/TRFO11 (io), 31 P8_3/TRFO10/TRFI (io), 32 P8_2/TRFO02 (io), 33 P8_1/TRFO01 (io), 34 P8_0/TRFO00 (io), 35 P6_0/TREO (io), 36 P4_5/~{INT0} (io), 37 P6_6/~{INT2}/TXD1 (io), 38 P6_7/~{INT3}/RXD1 (io), 39 P6_5/(CLK1)/CLK2 (io), 40 P6_4/RXD2 (io), 41 P6_3/TXD2 (io), 42 P3_1/TRBO (io), 43 P3_0/TRAO (io), 44 P3_6/(~{INT1}) (io), 45 P3_2/(~{INT2}) (io), 46 P1_3/~{Kl3}/AN11 (io), 47 P1_2/~{Kl2}/AN10 (io), 48 P1_1/~{Kl1}/AN9 (io), 49 P1_0/~{Kl0}/AN8 (io), 50 P0_0/AN7 (io), 51 P0_1/AN6 (io), 52 P0_2/AN5 (io), 53 P0_3/AN4 (io), 54 P0_4/AN3 (io), 55 P6_2 (io), 56 P6_1 (io), 57 P0_5/AN2/CLK1 (io), 58 P0_6/AN1/DA0 (io), 59 VSS/AVSS (power), 60 P0_7/AN0/DA1 (io), 61 VREF (in), 62 VCC/AVCC (power), 63 P3_7/SSO (io), 64 P3_5/SCL/SSCK (io)

## R5F212BASNFA
designator U?
R8C/2B Group Single Chip 16-Bit CMOS MCU, 96K ROM + 1K x2 Data Flash, 7K RAM, N Version; Published: 30-Oct-2009; DatasheetVersion: Rev.2.10, Nov-2007; PackageVersion: Oct-2005; PackageReference: PLQP0064GA-A; Publisher: Altium Limited; PackageDescription: 64-Pin Plastic Low Profile QFP, 14 x 14 x 1.4 mm Body, 0.8 mm Pitch; Code_JEITA: P-LQFP64-14x14-0.80; ComponentLink1Description: Manufacturer Link; ComponentLink1URL: http://sg.renesas.com/fmwk.jsp?cnt=r8c_family_landing.jsp&fp=/products/mpumcu/r8c_family/; ComponentLink2Description: Datasheet; ComponentLink2URL: http://documentation.renesas.com/eng/products/mpumcu/rej03b0182_r8c2a2bds.pdf; ComponentLink3Description: Packaging Specification; ComponentLink3URL: http://sg.renesas.com/media/products/common_info/package/pdf/ic/code/plqp0064ga_a.pdf
footprint PLQP0064GA-A_N (QFP, 64-Leads, Body 14x14mm, Pitch 0.8mm, IPC Medium Density)
footprint PLQP0064GA-A_L (QFP, 64-Leads, Body 14x14mm, Pitch 0.8mm, IPC High Density)
footprint PLQP0064GA-A_M (QFP, 64-Leads, Body 14x14mm, Pitch 0.8mm, IPC Low Density)
pins: 1 P3_3/SSI (io), 2 P3_4/SDA/~{SCS} (io), 3 MODE (in), 4 P4_3/XCIN (in), 5 P4_4/XCOUT, 6 ~{RESET} (in), 7 P4_7/XOUT, 8 VSS/AVSS (power), 9 P4_6/XIN (in), 10 VCC/AVCC (power), 11 P5_4/TRCIOD (io), 12 P5_3/TRCIOC (io), 13 P5_2/TRCIOB (io), 14 P5_1/TRCIOA/TRCTRG (io), 15 P5_0/TRCCLK (io), 16 P2_7/TRDIOD1 (io), 17 P2_6/TRDIOC1 (io), 18 P2_5/TRDIOB1 (io), 19 P2_4/TRDIOA1 (io), 20 P2_3/TRDIOD0 (io), 21 P2_2/TRDIOC0 (io), 22 P2_1/TRDIOB0 (io), 23 P2_0/TRDIOA0/TRDCLK (io), 24 P1_7/TRAIO/~{INT1} (io), 25 P1_6/CLK0 (io), 26 P1_5/RXD0/(TRAIO)/(~{INT1}) (io), 27 P1_4/TXD0 (io), 28 P8_6 (io), 29 P8_5/TRFO12 (io), 30 P8_4/TRFO11 (io), 31 P8_3/TRFO10/TRFI (io), 32 P8_2/TRFO02 (io), 33 P8_1/TRFO01 (io), 34 P8_0/TRFO00 (io), 35 P6_0/TREO (io), 36 P4_5/~{INT0} (io), 37 P6_6/~{INT2}/TXD1 (io), 38 P6_7/~{INT3}/RXD1 (io), 39 P6_5/(CLK1)/CLK2 (io), 40 P6_4/RXD2 (io), 41 P6_3/TXD2 (io), 42 P3_1/TRBO (io), 43 P3_0/TRAO (io), 44 P3_6/(~{INT1}) (io), 45 P3_2/(~{INT2}) (io), 46 P1_3/~{Kl3}/AN11 (io), 47 P1_2/~{Kl2}/AN10 (io), 48 P1_1/~{Kl1}/AN9 (io), 49 P1_0/~{Kl0}/AN8 (io), 50 P0_0/AN7 (io), 51 P0_1/AN6 (io), 52 P0_2/AN5 (io), 53 P0_3/AN4 (io), 54 P0_4/AN3 (io), 55 P6_2 (io), 56 P6_1 (io), 57 P0_5/AN2/CLK1 (io), 58 P0_6/AN1/DA0 (io), 59 VSS/AVSS (power), 60 P0_7/AN0/DA1 (io), 61 VREF (in), 62 VCC/AVCC (power), 63 P3_7/SSO (io), 64 P3_5/SCL/SSCK (io)

## R5F212BASNFP
designator U?
R8C/2B Group Single Chip 16-Bit CMOS MCU, 96K ROM + 1K x2 Data Flash, 7K RAM, N Version; Published: 30-Oct-2009; DatasheetVersion: Rev.2.10, Nov-2007; PackageVersion: Sep-2005; PackageReference: PLQP0064KB-A; Publisher: Altium Limited; PackageDescription: 64-Pin Plastic Low Profile QFP, 10 x 10 x 1.4 mm Body, 0.5 mm Pitch; Code_JEITA: P-LQFP64-10x10-0.50; Code_IPC: SQFP50P1200X1200-64; ComponentLink1Description: Manufacturer Link; ComponentLink1URL: http://sg.renesas.com/fmwk.jsp?cnt=r8c_family_landing.jsp&fp=/products/mpumcu/r8c_family/; ComponentLink2Description: Datasheet; ComponentLink2URL: http://documentation.renesas.com/eng/products/mpumcu/rej03b0182_r8c2a2bds.pdf; ComponentLink3Description: Packaging Specification; ComponentLink3URL: http://sg.renesas.com/media/products/common_info/package/pdf/ic/code/plqp0064kb_a.pdf
footprint PLQP0064KB-A_N (Shrink QFP, 64-Leads, Body 10x10mm, Pitch 0.5mm, IPC Medium Density)
footprint PLQP0064KB-A_L (Shrink QFP, 64-Leads, Body 10x10mm, Pitch 0.5mm, IPC High Density)
footprint PLQP0064KB-A_M (Shrink QFP, 64-Leads, Body 10x10mm, Pitch 0.5mm, IPC Low Density)
pins: 1 P3_3/SSI (io), 2 P3_4/SDA/~{SCS} (io), 3 MODE (in), 4 P4_3/XCIN (in), 5 P4_4/XCOUT, 6 ~{RESET} (in), 7 P4_7/XOUT, 8 VSS/AVSS (power), 9 P4_6/XIN (in), 10 VCC/AVCC (power), 11 P5_4/TRCIOD (io), 12 P5_3/TRCIOC (io), 13 P5_2/TRCIOB (io), 14 P5_1/TRCIOA/TRCTRG (io), 15 P5_0/TRCCLK (io), 16 P2_7/TRDIOD1 (io), 17 P2_6/TRDIOC1 (io), 18 P2_5/TRDIOB1 (io), 19 P2_4/TRDIOA1 (io), 20 P2_3/TRDIOD0 (io), 21 P2_2/TRDIOC0 (io), 22 P2_1/TRDIOB0 (io), 23 P2_0/TRDIOA0/TRDCLK (io), 24 P1_7/TRAIO/~{INT1} (io), 25 P1_6/CLK0 (io), 26 P1_5/RXD0/(TRAIO)/(~{INT1}) (io), 27 P1_4/TXD0 (io), 28 P8_6 (io), 29 P8_5/TRFO12 (io), 30 P8_4/TRFO11 (io), 31 P8_3/TRFO10/TRFI (io), 32 P8_2/TRFO02 (io), 33 P8_1/TRFO01 (io), 34 P8_0/TRFO00 (io), 35 P6_0/TREO (io), 36 P4_5/~{INT0} (io), 37 P6_6/~{INT2}/TXD1 (io), 38 P6_7/~{INT3}/RXD1 (io), 39 P6_5/(CLK1)/CLK2 (io), 40 P6_4/RXD2 (io), 41 P6_3/TXD2 (io), 42 P3_1/TRBO (io), 43 P3_0/TRAO (io), 44 P3_6/(~{INT1}) (io), 45 P3_2/(~{INT2}) (io), 46 P1_3/~{Kl3}/AN11 (io), 47 P1_2/~{Kl2}/AN10 (io), 48 P1_1/~{Kl1}/AN9 (io), 49 P1_0/~{Kl0}/AN8 (io), 50 P0_0/AN7 (io), 51 P0_1/AN6 (io), 52 P0_2/AN5 (io), 53 P0_3/AN4 (io), 54 P0_4/AN3 (io), 55 P6_2 (io), 56 P6_1 (io), 57 P0_5/AN2/CLK1 (io), 58 P0_6/AN1/DA0 (io), 59 VSS/AVSS (power), 60 P0_7/AN0/DA1 (io), 61 VREF (in), 62 VCC/AVCC (power), 63 P3_7/SSO (io), 64 P3_5/SCL/SSCK (io)

## R5F212BASNLG
designator U?
R8C/2B Group Single Chip 16-Bit CMOS MCU, 96K ROM + 1K x2 Data Flash, 7K RAM, N Version; Published: 30-Oct-2009; DatasheetVersion: Rev.2.10, Nov-2007; PackageVersion: Sep-2005; PackageReference: PTLG0064JA-A; Publisher: Altium Limited; PackageDescription: 64-Ball Plastic Thin Fine-Pitch BGA, 6 x 6 mm Body, 0.65 mm Pitch; Code_JEITA: P-TFLGA64-6x6-0.65; ComponentLink1Description: Manufacturer Link; ComponentLink1URL: http://sg.renesas.com/fmwk.jsp?cnt=r8c_family_landing.jsp&fp=/products/mpumcu/r8c_family/; ComponentLink2Description: Datasheet; ComponentLink2URL: http://documentation.renesas.com/eng/products/mpumcu/rej03b0182_r8c2a2bds.pdf; ComponentLink3Description: Packaging Specification; ComponentLink3URL: http://sg.renesas.com/media/products/common_info/package/pdf/ic/code/ptlg0064ja_a.pdf
footprint PTLG0064JA-A (BGA, 64-Leads, Body 6x6mm, Pitch 0.65mm)
pins: A1 P2_7/TRDIOD1 (io), A2 P5_1/TRCIOA/TRCTRG (io), A3 VSS/AVSS (power), A4 P5_4/TRCIOD (io), A5 P4_4/XCOUT, A6 P5_3/TRCIOC (io), A7 P3_4/SDA/~{SCS} (io), A8 P3_3/SSI (io), B1 P2_6/TRDIOC1 (io), B2 P4_6/XIN (in), B3 VSS/AVSS (power), B4 VCC/AVCC (power), B5 P2_5/TRDIOB1 (io), B6 MODE (in), B7 P0_0/AN7 (io), B8 P0_1/AN6 (io), C1 P2_3/TRDIOD0 (io), C2 P2_2/TRDIOC0 (io), C3 P2_4/TRDIOA1 (io), C4 VCC/AVCC (power), C5 P4_3/XCIN (in), C6 P3_7/SSO (io), C7 P5_2/TRCIOB (io), C8 P5_0/TRCCLK (io), D1 P1_7/TRAIO/~{INT1} (io), D2 P2_0/TRDIOA0/TRDCLK (io), D3 P2_1/TRDIOB0 (io), D4 P4_7/XOUT, D5 P3_5/SCL/SSCK (io), D6 P0_4/AN3 (io), D7 P0_7/AN0/DA1 (io), D8 P0_6/AN1/DA0 (io), E1 P1_6/CLK0 (io), E2 P8_6 (io), E3 P1_5/RXD0/(TRAIO)/(~{INT1}) (io), E4 ~{RESET} (in), E5 P6_2 (io), E6 P6_1 (io), E7 VREF (in), E8 P6_0/TREO (io), F1 P8_5/TRFO12 (io), F2 P1_4/TXD0 (io), F3 P8_4/TRFO11 (io), F4 P8_3/TRFO10/TRFI (io), F5 P3_2/(~{INT2}) (io), F6 P0_5/AN2/CLK1 (io), F7 P3_0/TRAO (io), F8 P0_3/AN4 (io), G1 P4_5/~{INT0} (io), G2 P6_6/~{INT2}/TXD1 (io), G3 P8_2/TRFO02 (io), G4 P6_4/RXD2 (io), G5 P6_3/TXD2 (io), G6 P3_6/(~{INT1}) (io), G7 P6_5/(CLK1)/CLK2 (io), G8 P0_2/AN5 (io), H1 P6_7/~{INT3}/RXD1 (io), H2 P8_0/TRFO00 (io), H3 P8_1/TRFO01 (io), H4 P1_2/~{Kl2}/AN10 (io), H5 P1_3/~{Kl3}/AN11 (io), H6 P3_1/TRBO (io), H7 P1_1/~{Kl1}/AN9 (io), H8 P1_0/~{Kl0}/AN8 (io)

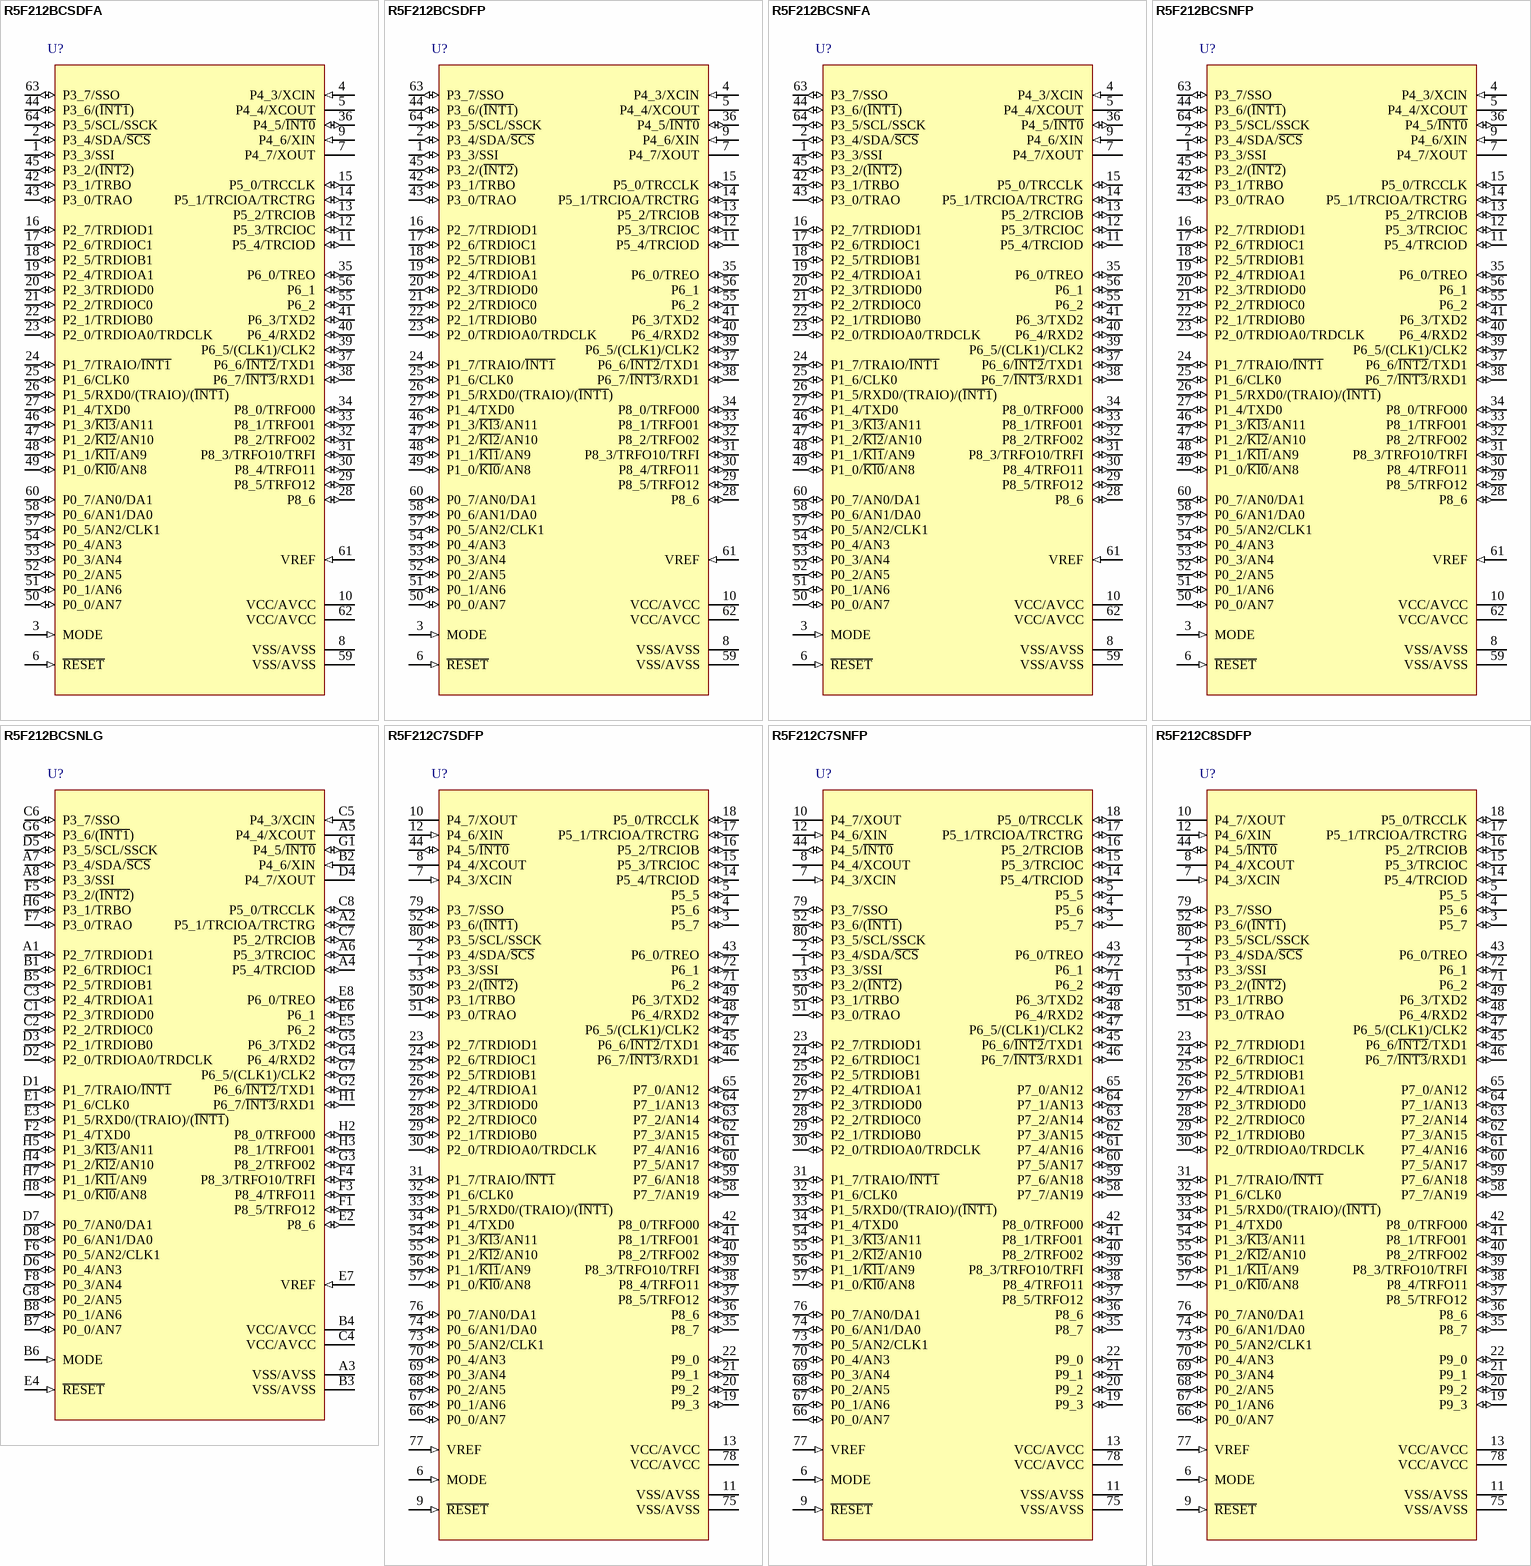
[diagram p49: symbols R5F212BCSDFA to R5F212C8SDFP]

## R5F212BCSDFA
designator U?
R8C/2B Group Single Chip 16-Bit CMOS MCU, 128K ROM + 1K x2 Data Flash, 7.5K RAM, D Version; Published: 30-Oct-2009; DatasheetVersion: Rev.2.10, Nov-2007; PackageVersion: Oct-2005; PackageReference: PLQP0064GA-A; Publisher: Altium Limited; PackageDescription: 64-Pin Plastic Low Profile QFP, 14 x 14 x 1.4 mm Body, 0.8 mm Pitch; Code_JEITA: P-LQFP64-14x14-0.80; ComponentLink1Description: Manufacturer Link; ComponentLink1URL: http://sg.renesas.com/fmwk.jsp?cnt=r8c_family_landing.jsp&fp=/products/mpumcu/r8c_family/; ComponentLink2Description: Datasheet; ComponentLink2URL: http://documentation.renesas.com/eng/products/mpumcu/rej03b0182_r8c2a2bds.pdf; ComponentLink3Description: Packaging Specification; ComponentLink3URL: http://sg.renesas.com/media/products/common_info/package/pdf/ic/code/plqp0064ga_a.pdf
footprint PLQP0064GA-A_N (QFP, 64-Leads, Body 14x14mm, Pitch 0.8mm, IPC Medium Density)
footprint PLQP0064GA-A_L (QFP, 64-Leads, Body 14x14mm, Pitch 0.8mm, IPC High Density)
footprint PLQP0064GA-A_M (QFP, 64-Leads, Body 14x14mm, Pitch 0.8mm, IPC Low Density)
pins: 1 P3_3/SSI (io), 2 P3_4/SDA/~{SCS} (io), 3 MODE (in), 4 P4_3/XCIN (in), 5 P4_4/XCOUT, 6 ~{RESET} (in), 7 P4_7/XOUT, 8 VSS/AVSS (power), 9 P4_6/XIN (in), 10 VCC/AVCC (power), 11 P5_4/TRCIOD (io), 12 P5_3/TRCIOC (io), 13 P5_2/TRCIOB (io), 14 P5_1/TRCIOA/TRCTRG (io), 15 P5_0/TRCCLK (io), 16 P2_7/TRDIOD1 (io), 17 P2_6/TRDIOC1 (io), 18 P2_5/TRDIOB1 (io), 19 P2_4/TRDIOA1 (io), 20 P2_3/TRDIOD0 (io), 21 P2_2/TRDIOC0 (io), 22 P2_1/TRDIOB0 (io), 23 P2_0/TRDIOA0/TRDCLK (io), 24 P1_7/TRAIO/~{INT1} (io), 25 P1_6/CLK0 (io), 26 P1_5/RXD0/(TRAIO)/(~{INT1}) (io), 27 P1_4/TXD0 (io), 28 P8_6 (io), 29 P8_5/TRFO12 (io), 30 P8_4/TRFO11 (io), 31 P8_3/TRFO10/TRFI (io), 32 P8_2/TRFO02 (io), 33 P8_1/TRFO01 (io), 34 P8_0/TRFO00 (io), 35 P6_0/TREO (io), 36 P4_5/~{INT0} (io), 37 P6_6/~{INT2}/TXD1 (io), 38 P6_7/~{INT3}/RXD1 (io), 39 P6_5/(CLK1)/CLK2 (io), 40 P6_4/RXD2 (io), 41 P6_3/TXD2 (io), 42 P3_1/TRBO (io), 43 P3_0/TRAO (io), 44 P3_6/(~{INT1}) (io), 45 P3_2/(~{INT2}) (io), 46 P1_3/~{Kl3}/AN11 (io), 47 P1_2/~{Kl2}/AN10 (io), 48 P1_1/~{Kl1}/AN9 (io), 49 P1_0/~{Kl0}/AN8 (io), 50 P0_0/AN7 (io), 51 P0_1/AN6 (io), 52 P0_2/AN5 (io), 53 P0_3/AN4 (io), 54 P0_4/AN3 (io), 55 P6_2 (io), 56 P6_1 (io), 57 P0_5/AN2/CLK1 (io), 58 P0_6/AN1/DA0 (io), 59 VSS/AVSS (power), 60 P0_7/AN0/DA1 (io), 61 VREF (in), 62 VCC/AVCC (power), 63 P3_7/SSO (io), 64 P3_5/SCL/SSCK (io)

## R5F212BCSDFP
designator U?
R8C/2B Group Single Chip 16-Bit CMOS MCU, 128K ROM + 1K x2 Data Flash, 7.5K RAM, D Version; Published: 30-Oct-2009; DatasheetVersion: Rev.2.10, Nov-2007; PackageVersion: Sep-2005; PackageReference: PLQP0064KB-A; Publisher: Altium Limited; PackageDescription: 64-Pin Plastic Low Profile QFP, 10 x 10 x 1.4 mm Body, 0.5 mm Pitch; Code_JEITA: P-LQFP64-10x10-0.50; Code_IPC: SQFP50P1200X1200-64; ComponentLink1Description: Manufacturer Link; ComponentLink1URL: http://sg.renesas.com/fmwk.jsp?cnt=r8c_family_landing.jsp&fp=/products/mpumcu/r8c_family/; ComponentLink2Description: Datasheet; ComponentLink2URL: http://documentation.renesas.com/eng/products/mpumcu/rej03b0182_r8c2a2bds.pdf; ComponentLink3Description: Packaging Specification; ComponentLink3URL: http://sg.renesas.com/media/products/common_info/package/pdf/ic/code/plqp0064kb_a.pdf
footprint PLQP0064KB-A_N (Shrink QFP, 64-Leads, Body 10x10mm, Pitch 0.5mm, IPC Medium Density)
footprint PLQP0064KB-A_L (Shrink QFP, 64-Leads, Body 10x10mm, Pitch 0.5mm, IPC High Density)
footprint PLQP0064KB-A_M (Shrink QFP, 64-Leads, Body 10x10mm, Pitch 0.5mm, IPC Low Density)
pins: 1 P3_3/SSI (io), 2 P3_4/SDA/~{SCS} (io), 3 MODE (in), 4 P4_3/XCIN (in), 5 P4_4/XCOUT, 6 ~{RESET} (in), 7 P4_7/XOUT, 8 VSS/AVSS (power), 9 P4_6/XIN (in), 10 VCC/AVCC (power), 11 P5_4/TRCIOD (io), 12 P5_3/TRCIOC (io), 13 P5_2/TRCIOB (io), 14 P5_1/TRCIOA/TRCTRG (io), 15 P5_0/TRCCLK (io), 16 P2_7/TRDIOD1 (io), 17 P2_6/TRDIOC1 (io), 18 P2_5/TRDIOB1 (io), 19 P2_4/TRDIOA1 (io), 20 P2_3/TRDIOD0 (io), 21 P2_2/TRDIOC0 (io), 22 P2_1/TRDIOB0 (io), 23 P2_0/TRDIOA0/TRDCLK (io), 24 P1_7/TRAIO/~{INT1} (io), 25 P1_6/CLK0 (io), 26 P1_5/RXD0/(TRAIO)/(~{INT1}) (io), 27 P1_4/TXD0 (io), 28 P8_6 (io), 29 P8_5/TRFO12 (io), 30 P8_4/TRFO11 (io), 31 P8_3/TRFO10/TRFI (io), 32 P8_2/TRFO02 (io), 33 P8_1/TRFO01 (io), 34 P8_0/TRFO00 (io), 35 P6_0/TREO (io), 36 P4_5/~{INT0} (io), 37 P6_6/~{INT2}/TXD1 (io), 38 P6_7/~{INT3}/RXD1 (io), 39 P6_5/(CLK1)/CLK2 (io), 40 P6_4/RXD2 (io), 41 P6_3/TXD2 (io), 42 P3_1/TRBO (io), 43 P3_0/TRAO (io), 44 P3_6/(~{INT1}) (io), 45 P3_2/(~{INT2}) (io), 46 P1_3/~{Kl3}/AN11 (io), 47 P1_2/~{Kl2}/AN10 (io), 48 P1_1/~{Kl1}/AN9 (io), 49 P1_0/~{Kl0}/AN8 (io), 50 P0_0/AN7 (io), 51 P0_1/AN6 (io), 52 P0_2/AN5 (io), 53 P0_3/AN4 (io), 54 P0_4/AN3 (io), 55 P6_2 (io), 56 P6_1 (io), 57 P0_5/AN2/CLK1 (io), 58 P0_6/AN1/DA0 (io), 59 VSS/AVSS (power), 60 P0_7/AN0/DA1 (io), 61 VREF (in), 62 VCC/AVCC (power), 63 P3_7/SSO (io), 64 P3_5/SCL/SSCK (io)

## R5F212BCSNFA
designator U?
R8C/2B Group Single Chip 16-Bit CMOS MCU, 128K ROM + 1K x2 Data Flash, 7.5K RAM, N Version; Published: 30-Oct-2009; DatasheetVersion: Rev.2.10, Nov-2007; PackageVersion: Oct-2005; PackageReference: PLQP0064GA-A; Publisher: Altium Limited; PackageDescription: 64-Pin Plastic Low Profile QFP, 14 x 14 x 1.4 mm Body, 0.8 mm Pitch; Code_JEITA: P-LQFP64-14x14-0.80; ComponentLink1Description: Manufacturer Link; ComponentLink1URL: http://sg.renesas.com/fmwk.jsp?cnt=r8c_family_landing.jsp&fp=/products/mpumcu/r8c_family/; ComponentLink2Description: Datasheet; ComponentLink2URL: http://documentation.renesas.com/eng/products/mpumcu/rej03b0182_r8c2a2bds.pdf; ComponentLink3Description: Packaging Specification; ComponentLink3URL: http://sg.renesas.com/media/products/common_info/package/pdf/ic/code/plqp0064ga_a.pdf
footprint PLQP0064GA-A_N (QFP, 64-Leads, Body 14x14mm, Pitch 0.8mm, IPC Medium Density)
footprint PLQP0064GA-A_L (QFP, 64-Leads, Body 14x14mm, Pitch 0.8mm, IPC High Density)
footprint PLQP0064GA-A_M (QFP, 64-Leads, Body 14x14mm, Pitch 0.8mm, IPC Low Density)
pins: 1 P3_3/SSI (io), 2 P3_4/SDA/~{SCS} (io), 3 MODE (in), 4 P4_3/XCIN (in), 5 P4_4/XCOUT, 6 ~{RESET} (in), 7 P4_7/XOUT, 8 VSS/AVSS (power), 9 P4_6/XIN (in), 10 VCC/AVCC (power), 11 P5_4/TRCIOD (io), 12 P5_3/TRCIOC (io), 13 P5_2/TRCIOB (io), 14 P5_1/TRCIOA/TRCTRG (io), 15 P5_0/TRCCLK (io), 16 P2_7/TRDIOD1 (io), 17 P2_6/TRDIOC1 (io), 18 P2_5/TRDIOB1 (io), 19 P2_4/TRDIOA1 (io), 20 P2_3/TRDIOD0 (io), 21 P2_2/TRDIOC0 (io), 22 P2_1/TRDIOB0 (io), 23 P2_0/TRDIOA0/TRDCLK (io), 24 P1_7/TRAIO/~{INT1} (io), 25 P1_6/CLK0 (io), 26 P1_5/RXD0/(TRAIO)/(~{INT1}) (io), 27 P1_4/TXD0 (io), 28 P8_6 (io), 29 P8_5/TRFO12 (io), 30 P8_4/TRFO11 (io), 31 P8_3/TRFO10/TRFI (io), 32 P8_2/TRFO02 (io), 33 P8_1/TRFO01 (io), 34 P8_0/TRFO00 (io), 35 P6_0/TREO (io), 36 P4_5/~{INT0} (io), 37 P6_6/~{INT2}/TXD1 (io), 38 P6_7/~{INT3}/RXD1 (io), 39 P6_5/(CLK1)/CLK2 (io), 40 P6_4/RXD2 (io), 41 P6_3/TXD2 (io), 42 P3_1/TRBO (io), 43 P3_0/TRAO (io), 44 P3_6/(~{INT1}) (io), 45 P3_2/(~{INT2}) (io), 46 P1_3/~{Kl3}/AN11 (io), 47 P1_2/~{Kl2}/AN10 (io), 48 P1_1/~{Kl1}/AN9 (io), 49 P1_0/~{Kl0}/AN8 (io), 50 P0_0/AN7 (io), 51 P0_1/AN6 (io), 52 P0_2/AN5 (io), 53 P0_3/AN4 (io), 54 P0_4/AN3 (io), 55 P6_2 (io), 56 P6_1 (io), 57 P0_5/AN2/CLK1 (io), 58 P0_6/AN1/DA0 (io), 59 VSS/AVSS (power), 60 P0_7/AN0/DA1 (io), 61 VREF (in), 62 VCC/AVCC (power), 63 P3_7/SSO (io), 64 P3_5/SCL/SSCK (io)

## R5F212BCSNFP
designator U?
R8C/2B Group Single Chip 16-Bit CMOS MCU, 128K ROM + 1K x2 Data Flash, 7.5K RAM, N Version; Published: 30-Oct-2009; DatasheetVersion: Rev.2.10, Nov-2007; PackageVersion: Sep-2005; PackageReference: PLQP0064KB-A; Publisher: Altium Limited; PackageDescription: 64-Pin Plastic Low Profile QFP, 10 x 10 x 1.4 mm Body, 0.5 mm Pitch; Code_JEITA: P-LQFP64-10x10-0.50; Code_IPC: SQFP50P1200X1200-64; ComponentLink1Description: Manufacturer Link; ComponentLink1URL: http://sg.renesas.com/fmwk.jsp?cnt=r8c_family_landing.jsp&fp=/products/mpumcu/r8c_family/; ComponentLink2Description: Datasheet; ComponentLink2URL: http://documentation.renesas.com/eng/products/mpumcu/rej03b0182_r8c2a2bds.pdf; ComponentLink3Description: Packaging Specification; ComponentLink3URL: http://sg.renesas.com/media/products/common_info/package/pdf/ic/code/plqp0064kb_a.pdf
footprint PLQP0064KB-A_N (Shrink QFP, 64-Leads, Body 10x10mm, Pitch 0.5mm, IPC Medium Density)
footprint PLQP0064KB-A_L (Shrink QFP, 64-Leads, Body 10x10mm, Pitch 0.5mm, IPC High Density)
footprint PLQP0064KB-A_M (Shrink QFP, 64-Leads, Body 10x10mm, Pitch 0.5mm, IPC Low Density)
pins: 1 P3_3/SSI (io), 2 P3_4/SDA/~{SCS} (io), 3 MODE (in), 4 P4_3/XCIN (in), 5 P4_4/XCOUT, 6 ~{RESET} (in), 7 P4_7/XOUT, 8 VSS/AVSS (power), 9 P4_6/XIN (in), 10 VCC/AVCC (power), 11 P5_4/TRCIOD (io), 12 P5_3/TRCIOC (io), 13 P5_2/TRCIOB (io), 14 P5_1/TRCIOA/TRCTRG (io), 15 P5_0/TRCCLK (io), 16 P2_7/TRDIOD1 (io), 17 P2_6/TRDIOC1 (io), 18 P2_5/TRDIOB1 (io), 19 P2_4/TRDIOA1 (io), 20 P2_3/TRDIOD0 (io), 21 P2_2/TRDIOC0 (io), 22 P2_1/TRDIOB0 (io), 23 P2_0/TRDIOA0/TRDCLK (io), 24 P1_7/TRAIO/~{INT1} (io), 25 P1_6/CLK0 (io), 26 P1_5/RXD0/(TRAIO)/(~{INT1}) (io), 27 P1_4/TXD0 (io), 28 P8_6 (io), 29 P8_5/TRFO12 (io), 30 P8_4/TRFO11 (io), 31 P8_3/TRFO10/TRFI (io), 32 P8_2/TRFO02 (io), 33 P8_1/TRFO01 (io), 34 P8_0/TRFO00 (io), 35 P6_0/TREO (io), 36 P4_5/~{INT0} (io), 37 P6_6/~{INT2}/TXD1 (io), 38 P6_7/~{INT3}/RXD1 (io), 39 P6_5/(CLK1)/CLK2 (io), 40 P6_4/RXD2 (io), 41 P6_3/TXD2 (io), 42 P3_1/TRBO (io), 43 P3_0/TRAO (io), 44 P3_6/(~{INT1}) (io), 45 P3_2/(~{INT2}) (io), 46 P1_3/~{Kl3}/AN11 (io), 47 P1_2/~{Kl2}/AN10 (io), 48 P1_1/~{Kl1}/AN9 (io), 49 P1_0/~{Kl0}/AN8 (io), 50 P0_0/AN7 (io), 51 P0_1/AN6 (io), 52 P0_2/AN5 (io), 53 P0_3/AN4 (io), 54 P0_4/AN3 (io), 55 P6_2 (io), 56 P6_1 (io), 57 P0_5/AN2/CLK1 (io), 58 P0_6/AN1/DA0 (io), 59 VSS/AVSS (power), 60 P0_7/AN0/DA1 (io), 61 VREF (in), 62 VCC/AVCC (power), 63 P3_7/SSO (io), 64 P3_5/SCL/SSCK (io)

## R5F212BCSNLG
designator U?
R8C/2B Group Single Chip 16-Bit CMOS MCU, 128K ROM + 1K x2 Data Flash, 7.5K RAM, N Version; Published: 30-Oct-2009; DatasheetVersion: Rev.2.10, Nov-2007; PackageVersion: Sep-2005; PackageReference: PTLG0064JA-A; Publisher: Altium Limited; PackageDescription: 64-Ball Plastic Thin Fine-Pitch BGA, 6 x 6 mm Body, 0.65 mm Pitch; Code_JEITA: P-TFLGA64-6x6-0.65; ComponentLink1Description: Manufacturer Link; ComponentLink1URL: http://sg.renesas.com/fmwk.jsp?cnt=r8c_family_landing.jsp&fp=/products/mpumcu/r8c_family/; ComponentLink2Description: Datasheet; ComponentLink2URL: http://documentation.renesas.com/eng/products/mpumcu/rej03b0182_r8c2a2bds.pdf; ComponentLink3Description: Packaging Specification; ComponentLink3URL: http://sg.renesas.com/media/products/common_info/package/pdf/ic/code/ptlg0064ja_a.pdf
footprint PTLG0064JA-A (BGA, 64-Leads, Body 6x6mm, Pitch 0.65mm)
pins: A1 P2_7/TRDIOD1 (io), A2 P5_1/TRCIOA/TRCTRG (io), A3 VSS/AVSS (power), A4 P5_4/TRCIOD (io), A5 P4_4/XCOUT, A6 P5_3/TRCIOC (io), A7 P3_4/SDA/~{SCS} (io), A8 P3_3/SSI (io), B1 P2_6/TRDIOC1 (io), B2 P4_6/XIN (in), B3 VSS/AVSS (power), B4 VCC/AVCC (power), B5 P2_5/TRDIOB1 (io), B6 MODE (in), B7 P0_0/AN7 (io), B8 P0_1/AN6 (io), C1 P2_3/TRDIOD0 (io), C2 P2_2/TRDIOC0 (io), C3 P2_4/TRDIOA1 (io), C4 VCC/AVCC (power), C5 P4_3/XCIN (in), C6 P3_7/SSO (io), C7 P5_2/TRCIOB (io), C8 P5_0/TRCCLK (io), D1 P1_7/TRAIO/~{INT1} (io), D2 P2_0/TRDIOA0/TRDCLK (io), D3 P2_1/TRDIOB0 (io), D4 P4_7/XOUT, D5 P3_5/SCL/SSCK (io), D6 P0_4/AN3 (io), D7 P0_7/AN0/DA1 (io), D8 P0_6/AN1/DA0 (io), E1 P1_6/CLK0 (io), E2 P8_6 (io), E3 P1_5/RXD0/(TRAIO)/(~{INT1}) (io), E4 ~{RESET} (in), E5 P6_2 (io), E6 P6_1 (io), E7 VREF (in), E8 P6_0/TREO (io), F1 P8_5/TRFO12 (io), F2 P1_4/TXD0 (io), F3 P8_4/TRFO11 (io), F4 P8_3/TRFO10/TRFI (io), F5 P3_2/(~{INT2}) (io), F6 P0_5/AN2/CLK1 (io), F7 P3_0/TRAO (io), F8 P0_3/AN4 (io), G1 P4_5/~{INT0} (io), G2 P6_6/~{INT2}/TXD1 (io), G3 P8_2/TRFO02 (io), G4 P6_4/RXD2 (io), G5 P6_3/TXD2 (io), G6 P3_6/(~{INT1}) (io), G7 P6_5/(CLK1)/CLK2 (io), G8 P0_2/AN5 (io), H1 P6_7/~{INT3}/RXD1 (io), H2 P8_0/TRFO00 (io), H3 P8_1/TRFO01 (io), H4 P1_2/~{Kl2}/AN10 (io), H5 P1_3/~{Kl3}/AN11 (io), H6 P3_1/TRBO (io), H7 P1_1/~{Kl1}/AN9 (io), H8 P1_0/~{Kl0}/AN8 (io)

## R5F212C7SDFP
designator U?
R8C/2C Group Single Chip 16-Bit CMOS MCU, 48K ROM, 2.5K RAM, D Version; Published: 30-Oct-2009; DatasheetVersion: Rev.2.10, Dec-2007; PackageVersion: Sep-2005; PackageReference: PLQP0080KB-A; Publisher: Altium Limited; PackageDescription: 80-Pin Plastic Low Profile QFP, 12 x 12 x 1.4 mm Body, 0.5 mm Pitch; Code_JEITA: P-LQFP80-12x12-0.50; Code_IPC: SQFP50P1400X1400-80; ComponentLink1Description: Manufacturer Link; ComponentLink1URL: http://sg.renesas.com/fmwk.jsp?cnt=r8c_family_landing.jsp&fp=/products/mpumcu/r8c_family/; ComponentLink2Description: Datasheet; ComponentLink2URL: http://documentation.renesas.com/eng/products/mpumcu/rej03b0183_r8c2c2dds.pdf; ComponentLink3Description: Packaging Specification; ComponentLink3URL: http://sg.renesas.com/media/products/common_info/package/pdf/ic/code/plqp0080kb_a.pdf
footprint PLQP0080KB-A_N (Shrink QFP, 80-Leads, Body 12x12mm, Pitch 0.5mm, IPC Medium Density)
footprint PLQP0080KB-A_L (Shrink QFP, 80-Leads, Body 12x12mm, Pitch 0.5mm, IPC High Density)
footprint PLQP0080KB-A_M (Shrink QFP, 80-Leads, Body 12x12mm, Pitch 0.5mm, IPC Low Density)
pins: 1 P3_3/SSI (io), 2 P3_4/SDA/~{SCS} (io), 3 P5_7 (io), 4 P5_6 (io), 5 P5_5 (io), 6 MODE (in), 7 P4_3/XCIN (in), 8 P4_4/XCOUT, 9 ~{RESET} (in), 10 P4_7/XOUT, 11 VSS/AVSS (power), 12 P4_6/XIN (in), 13 VCC/AVCC (power), 14 P5_4/TRCIOD (io), 15 P5_3/TRCIOC (io), 16 P5_2/TRCIOB (io), 17 P5_1/TRCIOA/TRCTRG (io), 18 P5_0/TRCCLK (io), 19 P9_3 (io), 20 P9_2 (io), 21 P9_1 (io), 22 P9_0 (io), 23 P2_7/TRDIOD1 (io), 24 P2_6/TRDIOC1 (io), 25 P2_5/TRDIOB1 (io), 26 P2_4/TRDIOA1 (io), 27 P2_3/TRDIOD0 (io), 28 P2_2/TRDIOC0 (io), 29 P2_1/TRDIOB0 (io), 30 P2_0/TRDIOA0/TRDCLK (io), 31 P1_7/TRAIO/~{INT1} (io), 32 P1_6/CLK0 (io), 33 P1_5/RXD0/(TRAIO)/(~{INT1}) (io), 34 P1_4/TXD0 (io), 35 P8_7 (io), 36 P8_6 (io), 37 P8_5/TRFO12 (io), 38 P8_4/TRFO11 (io), 39 P8_3/TRFO10/TRFI (io), 40 P8_2/TRFO02 (io), 41 P8_1/TRFO01 (io), 42 P8_0/TRFO00 (io), 43 P6_0/TREO (io), 44 P4_5/~{INT0} (io), 45 P6_6/~{INT2}/TXD1 (io), 46 P6_7/~{INT3}/RXD1 (io), 47 P6_5/(CLK1)/CLK2 (io), 48 P6_4/RXD2 (io), 49 P6_3/TXD2 (io), 50 P3_1/TRBO (io), 51 P3_0/TRAO (io), 52 P3_6/(~{INT1}) (io), 53 P3_2/(~{INT2}) (io), 54 P1_3/~{Kl3}/AN11 (io), 55 P1_2/~{Kl2}/AN10 (io), 56 P1_1/~{Kl1}/AN9 (io), 57 P1_0/~{Kl0}/AN8 (io), 58 P7_7/AN19 (io), 59 P7_6/AN18 (io), 60 P7_5/AN17 (io), 61 P7_4/AN16 (io), 62 P7_3/AN15 (io), 63 P7_2/AN14 (io), 64 P7_1/AN13 (io), 65 P7_0/AN12 (io), 66 P0_0/AN7 (io), 67 P0_1/AN6 (io), 68 P0_2/AN5 (io), 69 P0_3/AN4 (io), 70 P0_4/AN3 (io), 71 P6_2 (io), 72 P6_1 (io), 73 P0_5/AN2/CLK1 (io), 74 P0_6/AN1/DA0 (io), 75 VSS/AVSS (power), 76 P0_7/AN0/DA1 (io), 77 VREF (in), 78 VCC/AVCC (power), 79 P3_7/SSO (io), 80 P3_5/SCL/SSCK (io)

## R5F212C7SNFP
designator U?
R8C/2C Group Single Chip 16-Bit CMOS MCU, 48K ROM, 2.5K RAM, N Version; Published: 30-Oct-2009; DatasheetVersion: Rev.2.10, Dec-2007; PackageVersion: Sep-2005; PackageReference: PLQP0080KB-A; Publisher: Altium Limited; PackageDescription: 80-Pin Plastic Low Profile QFP, 12 x 12 x 1.4 mm Body, 0.5 mm Pitch; Code_JEITA: P-LQFP80-12x12-0.50; Code_IPC: SQFP50P1400X1400-80; ComponentLink1Description: Manufacturer Link; ComponentLink1URL: http://sg.renesas.com/fmwk.jsp?cnt=r8c_family_landing.jsp&fp=/products/mpumcu/r8c_family/; ComponentLink2Description: Datasheet; ComponentLink2URL: http://documentation.renesas.com/eng/products/mpumcu/rej03b0183_r8c2c2dds.pdf; ComponentLink3Description: Packaging Specification; ComponentLink3URL: http://sg.renesas.com/media/products/common_info/package/pdf/ic/code/plqp0080kb_a.pdf
footprint PLQP0080KB-A_N (Shrink QFP, 80-Leads, Body 12x12mm, Pitch 0.5mm, IPC Medium Density)
footprint PLQP0080KB-A_L (Shrink QFP, 80-Leads, Body 12x12mm, Pitch 0.5mm, IPC High Density)
footprint PLQP0080KB-A_M (Shrink QFP, 80-Leads, Body 12x12mm, Pitch 0.5mm, IPC Low Density)
pins: 1 P3_3/SSI (io), 2 P3_4/SDA/~{SCS} (io), 3 P5_7 (io), 4 P5_6 (io), 5 P5_5 (io), 6 MODE (in), 7 P4_3/XCIN (in), 8 P4_4/XCOUT, 9 ~{RESET} (in), 10 P4_7/XOUT, 11 VSS/AVSS (power), 12 P4_6/XIN (in), 13 VCC/AVCC (power), 14 P5_4/TRCIOD (io), 15 P5_3/TRCIOC (io), 16 P5_2/TRCIOB (io), 17 P5_1/TRCIOA/TRCTRG (io), 18 P5_0/TRCCLK (io), 19 P9_3 (io), 20 P9_2 (io), 21 P9_1 (io), 22 P9_0 (io), 23 P2_7/TRDIOD1 (io), 24 P2_6/TRDIOC1 (io), 25 P2_5/TRDIOB1 (io), 26 P2_4/TRDIOA1 (io), 27 P2_3/TRDIOD0 (io), 28 P2_2/TRDIOC0 (io), 29 P2_1/TRDIOB0 (io), 30 P2_0/TRDIOA0/TRDCLK (io), 31 P1_7/TRAIO/~{INT1} (io), 32 P1_6/CLK0 (io), 33 P1_5/RXD0/(TRAIO)/(~{INT1}) (io), 34 P1_4/TXD0 (io), 35 P8_7 (io), 36 P8_6 (io), 37 P8_5/TRFO12 (io), 38 P8_4/TRFO11 (io), 39 P8_3/TRFO10/TRFI (io), 40 P8_2/TRFO02 (io), 41 P8_1/TRFO01 (io), 42 P8_0/TRFO00 (io), 43 P6_0/TREO (io), 44 P4_5/~{INT0} (io), 45 P6_6/~{INT2}/TXD1 (io), 46 P6_7/~{INT3}/RXD1 (io), 47 P6_5/(CLK1)/CLK2 (io), 48 P6_4/RXD2 (io), 49 P6_3/TXD2 (io), 50 P3_1/TRBO (io), 51 P3_0/TRAO (io), 52 P3_6/(~{INT1}) (io), 53 P3_2/(~{INT2}) (io), 54 P1_3/~{Kl3}/AN11 (io), 55 P1_2/~{Kl2}/AN10 (io), 56 P1_1/~{Kl1}/AN9 (io), 57 P1_0/~{Kl0}/AN8 (io), 58 P7_7/AN19 (io), 59 P7_6/AN18 (io), 60 P7_5/AN17 (io), 61 P7_4/AN16 (io), 62 P7_3/AN15 (io), 63 P7_2/AN14 (io), 64 P7_1/AN13 (io), 65 P7_0/AN12 (io), 66 P0_0/AN7 (io), 67 P0_1/AN6 (io), 68 P0_2/AN5 (io), 69 P0_3/AN4 (io), 70 P0_4/AN3 (io), 71 P6_2 (io), 72 P6_1 (io), 73 P0_5/AN2/CLK1 (io), 74 P0_6/AN1/DA0 (io), 75 VSS/AVSS (power), 76 P0_7/AN0/DA1 (io), 77 VREF (in), 78 VCC/AVCC (power), 79 P3_7/SSO (io), 80 P3_5/SCL/SSCK (io)

## R5F212C8SDFP
designator U?
R8C/2C Group Single Chip 16-Bit CMOS MCU, 64K ROM, 3K RAM, D Version; Published: 30-Oct-2009; DatasheetVersion: Rev.2.10, Dec-2007; PackageVersion: Sep-2005; PackageReference: PLQP0080KB-A; Publisher: Altium Limited; PackageDescription: 80-Pin Plastic Low Profile QFP, 12 x 12 x 1.4 mm Body, 0.5 mm Pitch; Code_JEITA: P-LQFP80-12x12-0.50; Code_IPC: SQFP50P1400X1400-80; ComponentLink1Description: Manufacturer Link; ComponentLink1URL: http://sg.renesas.com/fmwk.jsp?cnt=r8c_family_landing.jsp&fp=/products/mpumcu/r8c_family/; ComponentLink2Description: Datasheet; ComponentLink2URL: http://documentation.renesas.com/eng/products/mpumcu/rej03b0183_r8c2c2dds.pdf; ComponentLink3Description: Packaging Specification; ComponentLink3URL: http://sg.renesas.com/media/products/common_info/package/pdf/ic/code/plqp0080kb_a.pdf
footprint PLQP0080KB-A_N (Shrink QFP, 80-Leads, Body 12x12mm, Pitch 0.5mm, IPC Medium Density)
footprint PLQP0080KB-A_L (Shrink QFP, 80-Leads, Body 12x12mm, Pitch 0.5mm, IPC High Density)
footprint PLQP0080KB-A_M (Shrink QFP, 80-Leads, Body 12x12mm, Pitch 0.5mm, IPC Low Density)
pins: 1 P3_3/SSI (io), 2 P3_4/SDA/~{SCS} (io), 3 P5_7 (io), 4 P5_6 (io), 5 P5_5 (io), 6 MODE (in), 7 P4_3/XCIN (in), 8 P4_4/XCOUT, 9 ~{RESET} (in), 10 P4_7/XOUT, 11 VSS/AVSS (power), 12 P4_6/XIN (in), 13 VCC/AVCC (power), 14 P5_4/TRCIOD (io), 15 P5_3/TRCIOC (io), 16 P5_2/TRCIOB (io), 17 P5_1/TRCIOA/TRCTRG (io), 18 P5_0/TRCCLK (io), 19 P9_3 (io), 20 P9_2 (io), 21 P9_1 (io), 22 P9_0 (io), 23 P2_7/TRDIOD1 (io), 24 P2_6/TRDIOC1 (io), 25 P2_5/TRDIOB1 (io), 26 P2_4/TRDIOA1 (io), 27 P2_3/TRDIOD0 (io), 28 P2_2/TRDIOC0 (io), 29 P2_1/TRDIOB0 (io), 30 P2_0/TRDIOA0/TRDCLK (io), 31 P1_7/TRAIO/~{INT1} (io), 32 P1_6/CLK0 (io), 33 P1_5/RXD0/(TRAIO)/(~{INT1}) (io), 34 P1_4/TXD0 (io), 35 P8_7 (io), 36 P8_6 (io), 37 P8_5/TRFO12 (io), 38 P8_4/TRFO11 (io), 39 P8_3/TRFO10/TRFI (io), 40 P8_2/TRFO02 (io), 41 P8_1/TRFO01 (io), 42 P8_0/TRFO00 (io), 43 P6_0/TREO (io), 44 P4_5/~{INT0} (io), 45 P6_6/~{INT2}/TXD1 (io), 46 P6_7/~{INT3}/RXD1 (io), 47 P6_5/(CLK1)/CLK2 (io), 48 P6_4/RXD2 (io), 49 P6_3/TXD2 (io), 50 P3_1/TRBO (io), 51 P3_0/TRAO (io), 52 P3_6/(~{INT1}) (io), 53 P3_2/(~{INT2}) (io), 54 P1_3/~{Kl3}/AN11 (io), 55 P1_2/~{Kl2}/AN10 (io), 56 P1_1/~{Kl1}/AN9 (io), 57 P1_0/~{Kl0}/AN8 (io), 58 P7_7/AN19 (io), 59 P7_6/AN18 (io), 60 P7_5/AN17 (io), 61 P7_4/AN16 (io), 62 P7_3/AN15 (io), 63 P7_2/AN14 (io), 64 P7_1/AN13 (io), 65 P7_0/AN12 (io), 66 P0_0/AN7 (io), 67 P0_1/AN6 (io), 68 P0_2/AN5 (io), 69 P0_3/AN4 (io), 70 P0_4/AN3 (io), 71 P6_2 (io), 72 P6_1 (io), 73 P0_5/AN2/CLK1 (io), 74 P0_6/AN1/DA0 (io), 75 VSS/AVSS (power), 76 P0_7/AN0/DA1 (io), 77 VREF (in), 78 VCC/AVCC (power), 79 P3_7/SSO (io), 80 P3_5/SCL/SSCK (io)

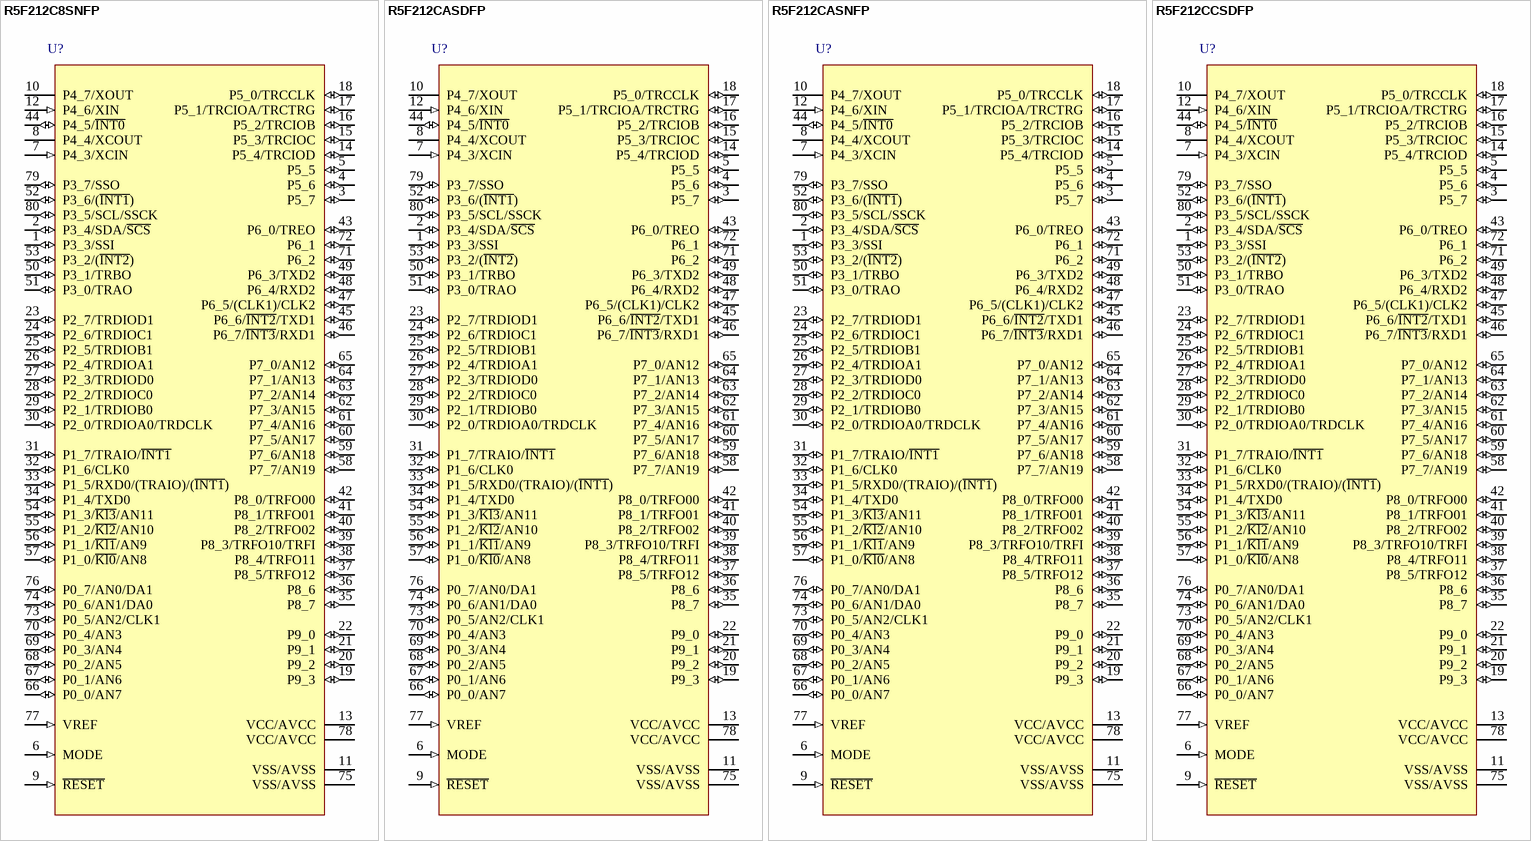
[diagram p50: symbols R5F212C8SNFP to R5F212CCSDFP]